# Altium integrated library Xilinx XC3000.IntLib: 584 symbols (part 5 of 27)
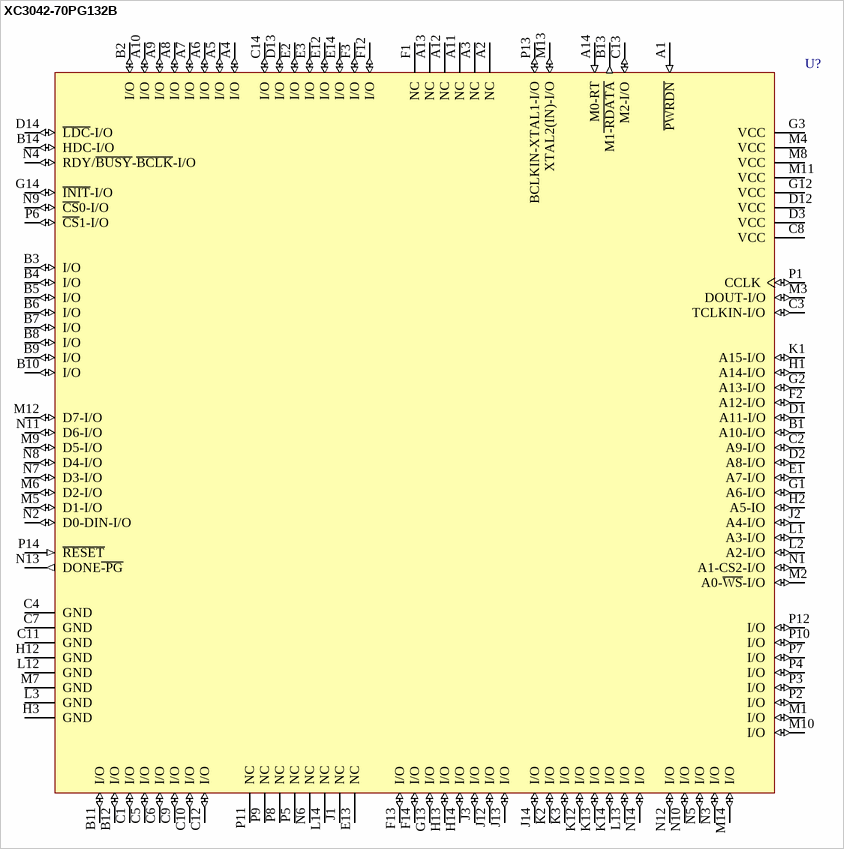
[diagram p321: symbol XC3042-70PG132B]

## XC3042-70PG132B
designator U?
Logic Cell Array with 144 CLBs, with 96 I/O Pins, 132-Pin PGA, Military Class B Grade; PackageDocument: ver1.1, Apr-2001; Published: 8-Jun-2000; LatestRevisionDate: 17-Jul-2002; LatestRevisionNote: Re-released for DXP Platform.; DatasheetDocument: 1994; PackageReference: PG132; Publisher: Altium Limited; Code_JEDEC: MO-067-AF
footprint PG132 (132-Pin Ceramic PGA (PG132))
pins: A1 ~{PWRDN} (in), A2 NC, A3 NC, A4 I/O (io), A5 I/O (io), A6 I/O (io), A7 I/O (io), A8 I/O (io), A9 I/O (io), A10 I/O (io), A11 NC, A12 NC, A13 NC, A14 M0-RT (in), B1 A10-I/O (io), B2 I/O (io), B3 I/O (io), B4 I/O (io), B5 I/O (io), B6 I/O (io), B7 I/O (io), B8 I/O (io), B9 I/O (io), B10 I/O (io), B11 I/O (io), B12 I/O (io), B13 M1~{-RDATA} (out), B14 HDC-I/O (io), C1 I/O (io), C2 A9-I/O (io), C3 TCLKIN-I/O (io), C4 GND (power), C5 I/O (io), C6 I/O (io), C7 GND (power), C8 VCC (power), C9 I/O (io), C10 I/O (io), C11 GND (power), C12 I/O (io), C13 M2-I/O (io), C14 I/O (io), D1 A11-I/O (io), D2 A8-I/O (io), D3 VCC (power), D12 VCC (power), D13 I/O (io), D14 ~{LDC}-I/O (io), E1 A7-I/O (io), E2 I/O (io), E3 I/O (io), E12 I/O (io), E13 NC, E14 I/O (io), F1 NC, F2 A12-I/O (io), F3 I/O (io), F12 I/O (io), F13 I/O (io), F14 I/O (io), G1 A6-I/O (io), G2 A13-I/O (io), G3 VCC (power), G12 VCC (power), G13 I/O (io), G14 ~{INIT}-I/O (io), H1 A14-I/O (io), H2 A5-IO (io), H3 GND (power), H12 GND (power), H13 I/O (io), H14 I/O (io), J1 NC, J2 A4-I/O (io), J3 I/O (io), J12 I/O (io), J13 I/O (io), J14 I/O (io), K1 A15-I/O (io), K2 I/O (io), K3 I/O (io), K12 I/O (io), K13 I/O (io), K14 I/O (io), L1 A3-I/O (io), L2 A2-I/O (io), L3 GND (power), L12 GND (power), L13 I/O (io), L14 NC, M1 I/O (io), M2 A0-~{WS}-I/O (io), M3 DOUT-I/O (io), M4 VCC (power), M5 D1-I/O (io), M6 D2-I/O (io), M7 GND (power), M8 VCC (power), M9 D5-I/O (io), M10 I/O (io), M11 VCC (power), M12 D7-I/O (io), M13 XTAL2(IN)-I/O (io), M14 I/O (io), N1 A1-CS2-I/O (io), N2 D0-DIN-I/O (io), N3 I/O (io), N4 RDY/~{BUSY}-~{BCLK}-I/O (io), N5 I/O (io), N6 NC, N7 D3-I/O (io), N8 D4-I/O (io), N9 ~{CS}0-I/O (io), N10 I/O (io), N11 D6-I/O (io), N12 I/O (io), N13 DONE~{-PG} (out), N14 I/O (io), P1 CCLK (io), P2 I/O (io), P3 I/O (io), P4 I/O (io), P5 NC, P6 ~{CS}1-I/O (io), P7 I/O (io), P8 NC, P9 NC, P10 I/O (io), P11 NC, P12 I/O (io), P13 BCLKIN-XTAL1-I/O (io), P14 ~{RESET} (in)

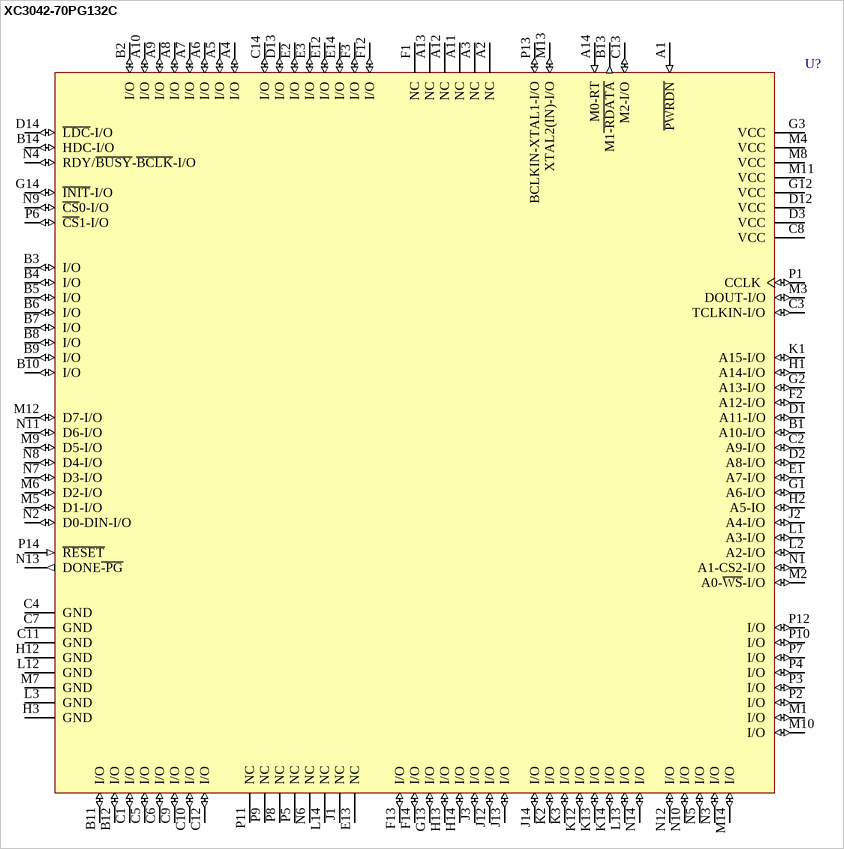
[diagram p30: symbol XC3042-70PG132C]

## XC3042-70PG132C
designator U?
Logic Cell Array with 144 CLBs, with 96 I/O Pins, 132-Pin PGA, Commercial Grade; PackageDocument: ver1.1, Apr-2001; Published: 8-Jun-2000; LatestRevisionDate: 17-Jul-2002; LatestRevisionNote: Re-released for DXP Platform.; DatasheetDocument: 1994; PackageReference: PG132; Publisher: Altium Limited; Code_JEDEC: MO-067-AF
footprint PG132 (132-Pin Ceramic PGA (PG132))
pins: A1 ~{PWRDN} (in), A2 NC, A3 NC, A4 I/O (io), A5 I/O (io), A6 I/O (io), A7 I/O (io), A8 I/O (io), A9 I/O (io), A10 I/O (io), A11 NC, A12 NC, A13 NC, A14 M0-RT (in), B1 A10-I/O (io), B2 I/O (io), B3 I/O (io), B4 I/O (io), B5 I/O (io), B6 I/O (io), B7 I/O (io), B8 I/O (io), B9 I/O (io), B10 I/O (io), B11 I/O (io), B12 I/O (io), B13 M1~{-RDATA} (out), B14 HDC-I/O (io), C1 I/O (io), C2 A9-I/O (io), C3 TCLKIN-I/O (io), C4 GND (power), C5 I/O (io), C6 I/O (io), C7 GND (power), C8 VCC (power), C9 I/O (io), C10 I/O (io), C11 GND (power), C12 I/O (io), C13 M2-I/O (io), C14 I/O (io), D1 A11-I/O (io), D2 A8-I/O (io), D3 VCC (power), D12 VCC (power), D13 I/O (io), D14 ~{LDC}-I/O (io), E1 A7-I/O (io), E2 I/O (io), E3 I/O (io), E12 I/O (io), E13 NC, E14 I/O (io), F1 NC, F2 A12-I/O (io), F3 I/O (io), F12 I/O (io), F13 I/O (io), F14 I/O (io), G1 A6-I/O (io), G2 A13-I/O (io), G3 VCC (power), G12 VCC (power), G13 I/O (io), G14 ~{INIT}-I/O (io), H1 A14-I/O (io), H2 A5-IO (io), H3 GND (power), H12 GND (power), H13 I/O (io), H14 I/O (io), J1 NC, J2 A4-I/O (io), J3 I/O (io), J12 I/O (io), J13 I/O (io), J14 I/O (io), K1 A15-I/O (io), K2 I/O (io), K3 I/O (io), K12 I/O (io), K13 I/O (io), K14 I/O (io), L1 A3-I/O (io), L2 A2-I/O (io), L3 GND (power), L12 GND (power), L13 I/O (io), L14 NC, M1 I/O (io), M2 A0-~{WS}-I/O (io), M3 DOUT-I/O (io), M4 VCC (power), M5 D1-I/O (io), M6 D2-I/O (io), M7 GND (power), M8 VCC (power), M9 D5-I/O (io), M10 I/O (io), M11 VCC (power), M12 D7-I/O (io), M13 XTAL2(IN)-I/O (io), M14 I/O (io), N1 A1-CS2-I/O (io), N2 D0-DIN-I/O (io), N3 I/O (io), N4 RDY/~{BUSY}-~{BCLK}-I/O (io), N5 I/O (io), N6 NC, N7 D3-I/O (io), N8 D4-I/O (io), N9 ~{CS}0-I/O (io), N10 I/O (io), N11 D6-I/O (io), N12 I/O (io), N13 DONE~{-PG} (out), N14 I/O (io), P1 CCLK (io), P2 I/O (io), P3 I/O (io), P4 I/O (io), P5 NC, P6 ~{CS}1-I/O (io), P7 I/O (io), P8 NC, P9 NC, P10 I/O (io), P11 NC, P12 I/O (io), P13 BCLKIN-XTAL1-I/O (io), P14 ~{RESET} (in)

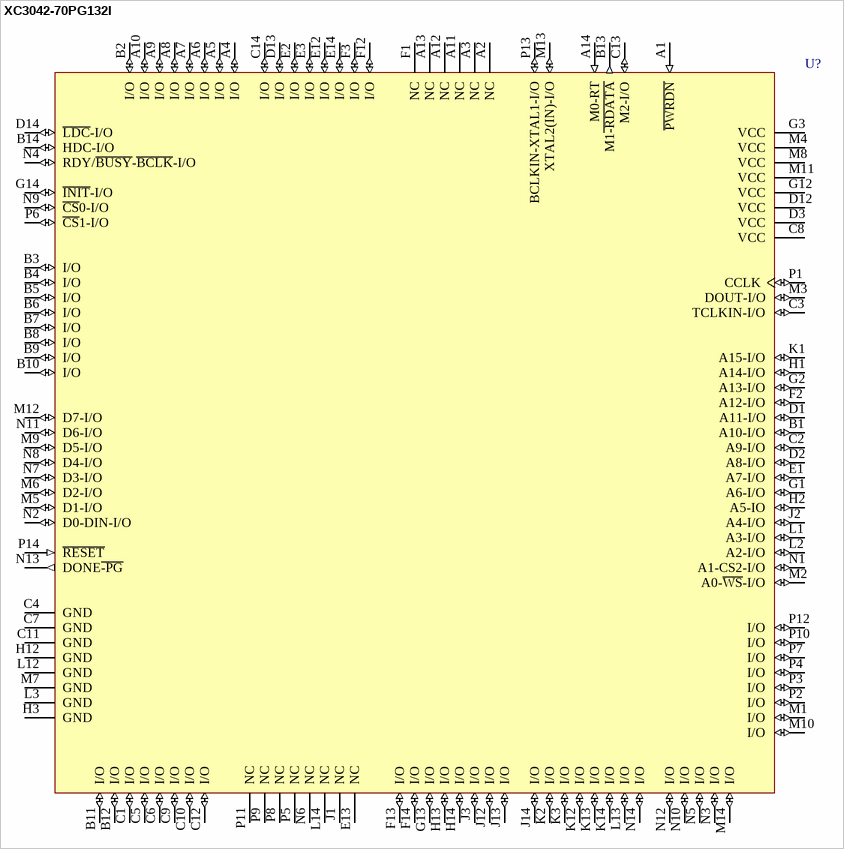
[diagram p31: symbol XC3042-70PG132I]

## XC3042-70PG132I
designator U?
Logic Cell Array with 144 CLBs, with 96 I/O Pins, 132-Pin PGA, Industrial Grade; PackageDocument: ver1.1, Apr-2001; Published: 8-Jun-2000; LatestRevisionDate: 17-Jul-2002; LatestRevisionNote: Re-released for DXP Platform.; DatasheetDocument: 1994; PackageReference: PG132; Publisher: Altium Limited; Code_JEDEC: MO-067-AF
footprint PG132 (132-Pin Ceramic PGA (PG132))
pins: A1 ~{PWRDN} (in), A2 NC, A3 NC, A4 I/O (io), A5 I/O (io), A6 I/O (io), A7 I/O (io), A8 I/O (io), A9 I/O (io), A10 I/O (io), A11 NC, A12 NC, A13 NC, A14 M0-RT (in), B1 A10-I/O (io), B2 I/O (io), B3 I/O (io), B4 I/O (io), B5 I/O (io), B6 I/O (io), B7 I/O (io), B8 I/O (io), B9 I/O (io), B10 I/O (io), B11 I/O (io), B12 I/O (io), B13 M1~{-RDATA} (out), B14 HDC-I/O (io), C1 I/O (io), C2 A9-I/O (io), C3 TCLKIN-I/O (io), C4 GND (power), C5 I/O (io), C6 I/O (io), C7 GND (power), C8 VCC (power), C9 I/O (io), C10 I/O (io), C11 GND (power), C12 I/O (io), C13 M2-I/O (io), C14 I/O (io), D1 A11-I/O (io), D2 A8-I/O (io), D3 VCC (power), D12 VCC (power), D13 I/O (io), D14 ~{LDC}-I/O (io), E1 A7-I/O (io), E2 I/O (io), E3 I/O (io), E12 I/O (io), E13 NC, E14 I/O (io), F1 NC, F2 A12-I/O (io), F3 I/O (io), F12 I/O (io), F13 I/O (io), F14 I/O (io), G1 A6-I/O (io), G2 A13-I/O (io), G3 VCC (power), G12 VCC (power), G13 I/O (io), G14 ~{INIT}-I/O (io), H1 A14-I/O (io), H2 A5-IO (io), H3 GND (power), H12 GND (power), H13 I/O (io), H14 I/O (io), J1 NC, J2 A4-I/O (io), J3 I/O (io), J12 I/O (io), J13 I/O (io), J14 I/O (io), K1 A15-I/O (io), K2 I/O (io), K3 I/O (io), K12 I/O (io), K13 I/O (io), K14 I/O (io), L1 A3-I/O (io), L2 A2-I/O (io), L3 GND (power), L12 GND (power), L13 I/O (io), L14 NC, M1 I/O (io), M2 A0-~{WS}-I/O (io), M3 DOUT-I/O (io), M4 VCC (power), M5 D1-I/O (io), M6 D2-I/O (io), M7 GND (power), M8 VCC (power), M9 D5-I/O (io), M10 I/O (io), M11 VCC (power), M12 D7-I/O (io), M13 XTAL2(IN)-I/O (io), M14 I/O (io), N1 A1-CS2-I/O (io), N2 D0-DIN-I/O (io), N3 I/O (io), N4 RDY/~{BUSY}-~{BCLK}-I/O (io), N5 I/O (io), N6 NC, N7 D3-I/O (io), N8 D4-I/O (io), N9 ~{CS}0-I/O (io), N10 I/O (io), N11 D6-I/O (io), N12 I/O (io), N13 DONE~{-PG} (out), N14 I/O (io), P1 CCLK (io), P2 I/O (io), P3 I/O (io), P4 I/O (io), P5 NC, P6 ~{CS}1-I/O (io), P7 I/O (io), P8 NC, P9 NC, P10 I/O (io), P11 NC, P12 I/O (io), P13 BCLKIN-XTAL1-I/O (io), P14 ~{RESET} (in)

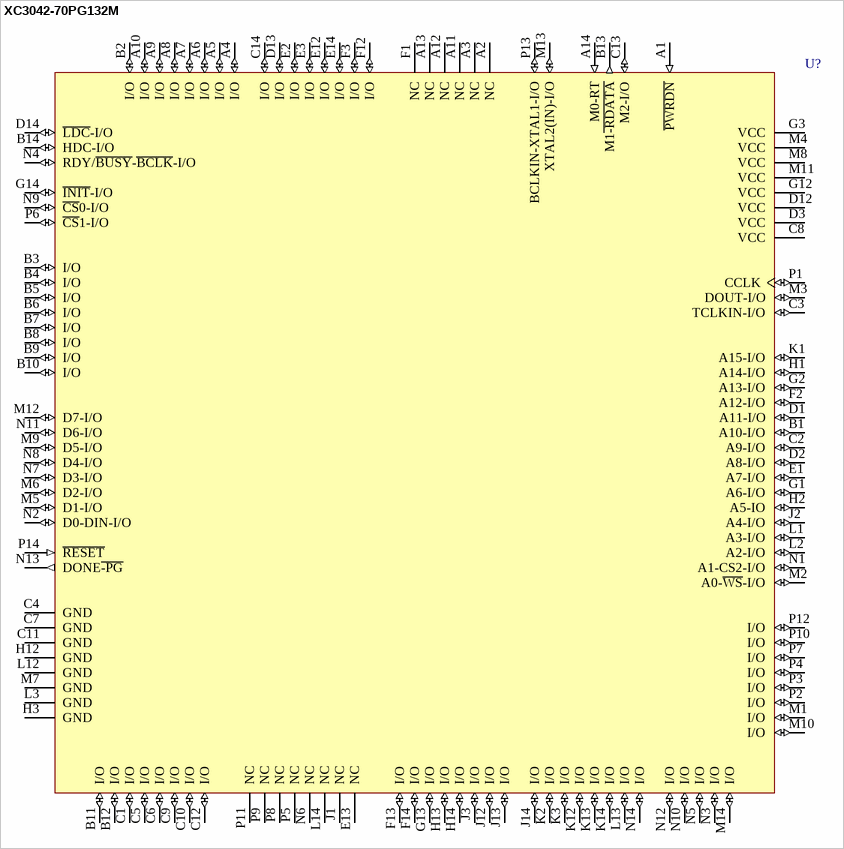
[diagram p32: symbol XC3042-70PG132M]

## XC3042-70PG132M
designator U?
Logic Cell Array with 144 CLBs, with 96 I/O Pins, 132-Pin PGA, Military Grade; PackageDocument: ver1.1, Apr-2001; Published: 8-Jun-2000; LatestRevisionDate: 17-Jul-2002; LatestRevisionNote: Re-released for DXP Platform.; DatasheetDocument: 1994; PackageReference: PG132; Publisher: Altium Limited; Code_JEDEC: MO-067-AF
footprint PG132 (132-Pin Ceramic PGA (PG132))
pins: A1 ~{PWRDN} (in), A2 NC, A3 NC, A4 I/O (io), A5 I/O (io), A6 I/O (io), A7 I/O (io), A8 I/O (io), A9 I/O (io), A10 I/O (io), A11 NC, A12 NC, A13 NC, A14 M0-RT (in), B1 A10-I/O (io), B2 I/O (io), B3 I/O (io), B4 I/O (io), B5 I/O (io), B6 I/O (io), B7 I/O (io), B8 I/O (io), B9 I/O (io), B10 I/O (io), B11 I/O (io), B12 I/O (io), B13 M1~{-RDATA} (out), B14 HDC-I/O (io), C1 I/O (io), C2 A9-I/O (io), C3 TCLKIN-I/O (io), C4 GND (power), C5 I/O (io), C6 I/O (io), C7 GND (power), C8 VCC (power), C9 I/O (io), C10 I/O (io), C11 GND (power), C12 I/O (io), C13 M2-I/O (io), C14 I/O (io), D1 A11-I/O (io), D2 A8-I/O (io), D3 VCC (power), D12 VCC (power), D13 I/O (io), D14 ~{LDC}-I/O (io), E1 A7-I/O (io), E2 I/O (io), E3 I/O (io), E12 I/O (io), E13 NC, E14 I/O (io), F1 NC, F2 A12-I/O (io), F3 I/O (io), F12 I/O (io), F13 I/O (io), F14 I/O (io), G1 A6-I/O (io), G2 A13-I/O (io), G3 VCC (power), G12 VCC (power), G13 I/O (io), G14 ~{INIT}-I/O (io), H1 A14-I/O (io), H2 A5-IO (io), H3 GND (power), H12 GND (power), H13 I/O (io), H14 I/O (io), J1 NC, J2 A4-I/O (io), J3 I/O (io), J12 I/O (io), J13 I/O (io), J14 I/O (io), K1 A15-I/O (io), K2 I/O (io), K3 I/O (io), K12 I/O (io), K13 I/O (io), K14 I/O (io), L1 A3-I/O (io), L2 A2-I/O (io), L3 GND (power), L12 GND (power), L13 I/O (io), L14 NC, M1 I/O (io), M2 A0-~{WS}-I/O (io), M3 DOUT-I/O (io), M4 VCC (power), M5 D1-I/O (io), M6 D2-I/O (io), M7 GND (power), M8 VCC (power), M9 D5-I/O (io), M10 I/O (io), M11 VCC (power), M12 D7-I/O (io), M13 XTAL2(IN)-I/O (io), M14 I/O (io), N1 A1-CS2-I/O (io), N2 D0-DIN-I/O (io), N3 I/O (io), N4 RDY/~{BUSY}-~{BCLK}-I/O (io), N5 I/O (io), N6 NC, N7 D3-I/O (io), N8 D4-I/O (io), N9 ~{CS}0-I/O (io), N10 I/O (io), N11 D6-I/O (io), N12 I/O (io), N13 DONE~{-PG} (out), N14 I/O (io), P1 CCLK (io), P2 I/O (io), P3 I/O (io), P4 I/O (io), P5 NC, P6 ~{CS}1-I/O (io), P7 I/O (io), P8 NC, P9 NC, P10 I/O (io), P11 NC, P12 I/O (io), P13 BCLKIN-XTAL1-I/O (io), P14 ~{RESET} (in)

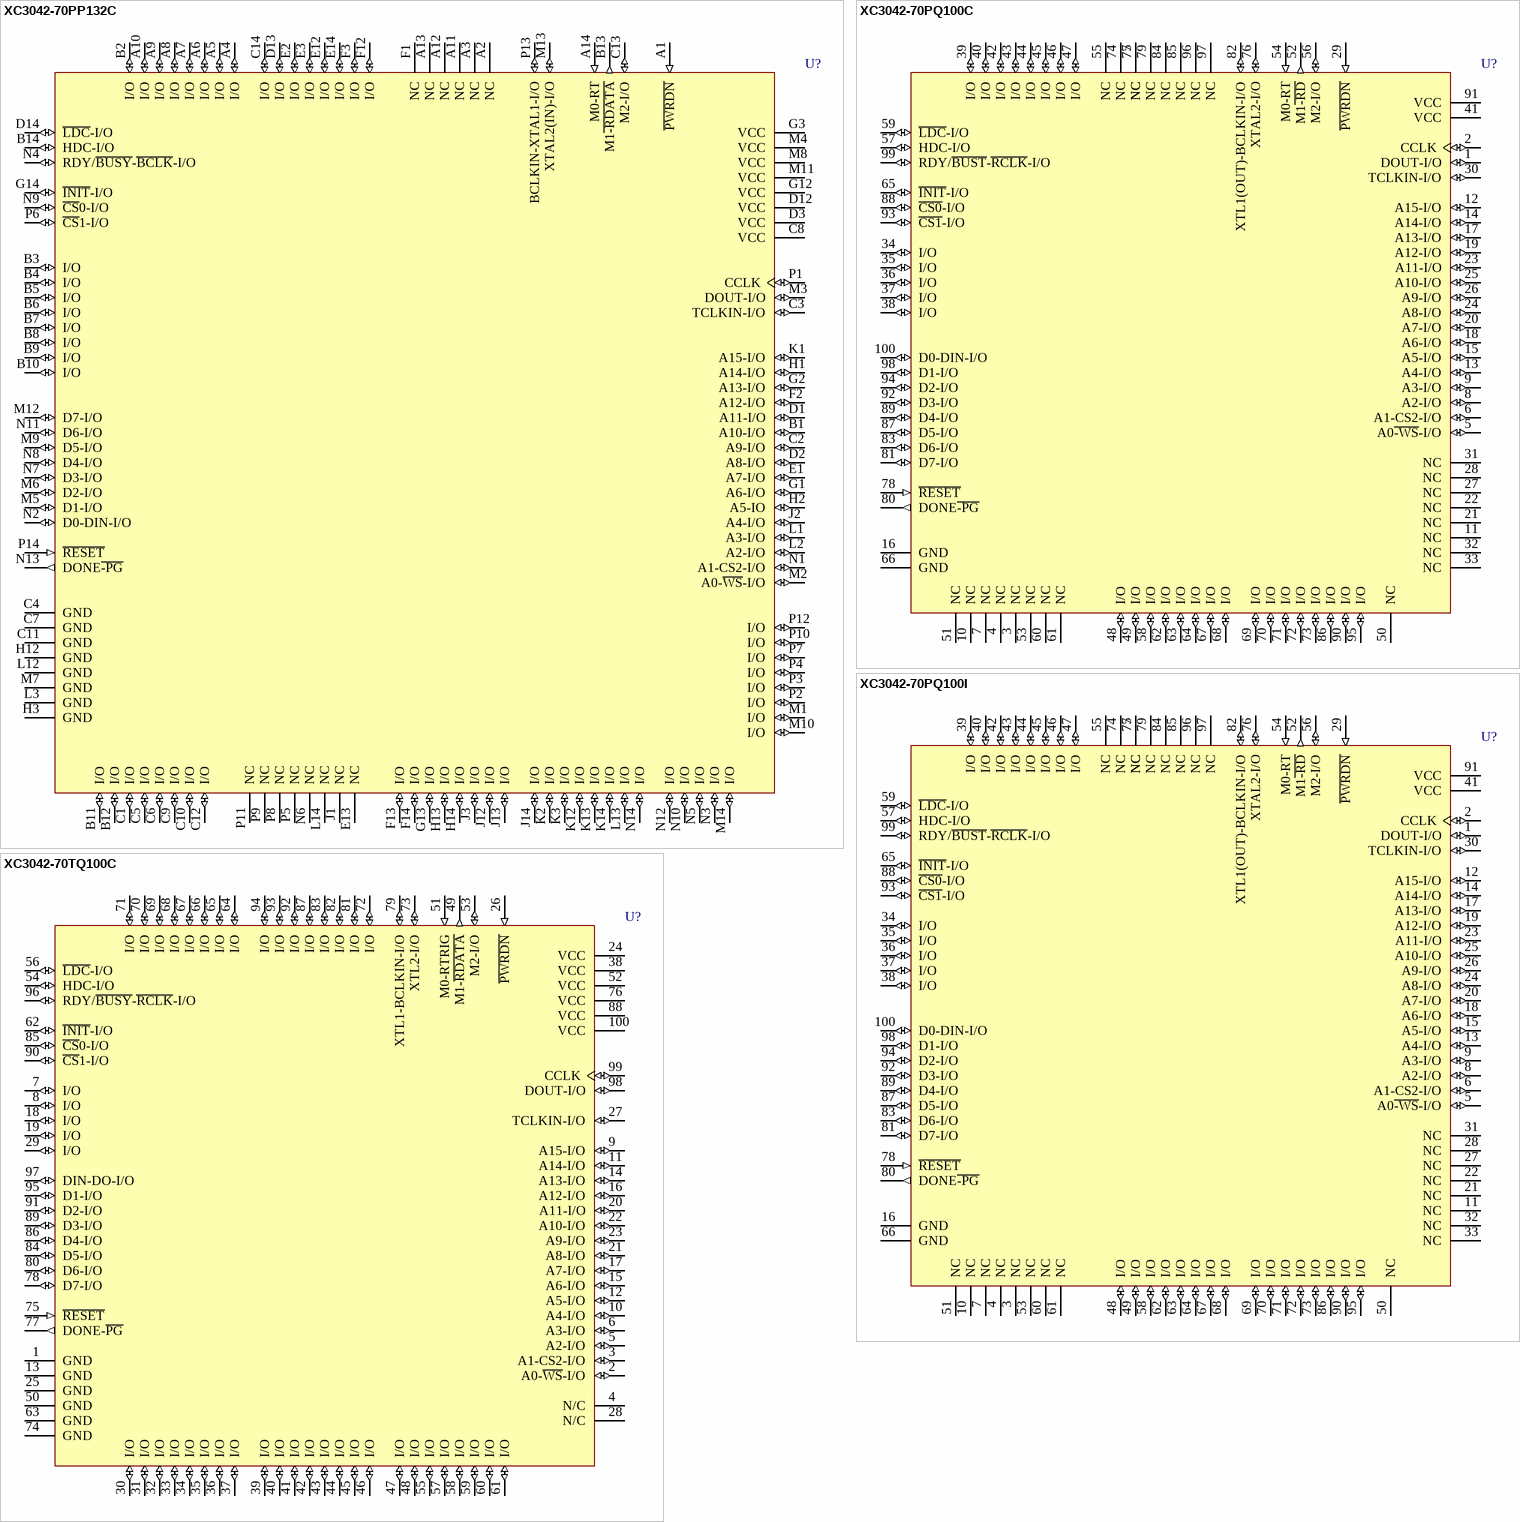
[diagram p33: symbols XC3042-70PP132C to XC3042-70TQ100C]

## XC3042-70PP132C
designator U?
Logic Cell Array with 144 CLBs, with 96 I/O Pins, 132-Pin PGA, Commercial Grade; PackageDocument: ver1.1, Apr-2001; Published: 8-Jun-2000; LatestRevisionDate: 17-Jul-2002; LatestRevisionNote: Re-released for DXP Platform.; DatasheetDocument: 1994; PackageReference: PP132; Publisher: Altium Limited; Code_JEDEC: MO-083-AF
footprint PP132 (132-Pin Plastic PGA (PP132))
pins: A1 ~{PWRDN} (in), A2 NC, A3 NC, A4 I/O (io), A5 I/O (io), A6 I/O (io), A7 I/O (io), A8 I/O (io), A9 I/O (io), A10 I/O (io), A11 NC, A12 NC, A13 NC, A14 M0-RT (in), B1 A10-I/O (io), B2 I/O (io), B3 I/O (io), B4 I/O (io), B5 I/O (io), B6 I/O (io), B7 I/O (io), B8 I/O (io), B9 I/O (io), B10 I/O (io), B11 I/O (io), B12 I/O (io), B13 M1~{-RDATA} (out), B14 HDC-I/O (io), C1 I/O (io), C2 A9-I/O (io), C3 TCLKIN-I/O (io), C4 GND (power), C5 I/O (io), C6 I/O (io), C7 GND (power), C8 VCC (power), C9 I/O (io), C10 I/O (io), C11 GND (power), C12 I/O (io), C13 M2-I/O (io), C14 I/O (io), D1 A11-I/O (io), D2 A8-I/O (io), D3 VCC (power), D12 VCC (power), D13 I/O (io), D14 ~{LDC}-I/O (io), E1 A7-I/O (io), E2 I/O (io), E3 I/O (io), E12 I/O (io), E13 NC, E14 I/O (io), F1 NC, F2 A12-I/O (io), F3 I/O (io), F12 I/O (io), F13 I/O (io), F14 I/O (io), G1 A6-I/O (io), G2 A13-I/O (io), G3 VCC (power), G12 VCC (power), G13 I/O (io), G14 ~{INIT}-I/O (io), H1 A14-I/O (io), H2 A5-IO (io), H3 GND (power), H12 GND (power), H13 I/O (io), H14 I/O (io), J1 NC, J2 A4-I/O (io), J3 I/O (io), J12 I/O (io), J13 I/O (io), J14 I/O (io), K1 A15-I/O (io), K2 I/O (io), K3 I/O (io), K12 I/O (io), K13 I/O (io), K14 I/O (io), L1 A3-I/O (io), L2 A2-I/O (io), L3 GND (power), L12 GND (power), L13 I/O (io), L14 NC, M1 I/O (io), M2 A0-~{WS}-I/O (io), M3 DOUT-I/O (io), M4 VCC (power), M5 D1-I/O (io), M6 D2-I/O (io), M7 GND (power), M8 VCC (power), M9 D5-I/O (io), M10 I/O (io), M11 VCC (power), M12 D7-I/O (io), M13 XTAL2(IN)-I/O (io), M14 I/O (io), N1 A1-CS2-I/O (io), N2 D0-DIN-I/O (io), N3 I/O (io), N4 RDY/~{BUSY}-~{BCLK}-I/O (io), N5 I/O (io), N6 NC, N7 D3-I/O (io), N8 D4-I/O (io), N9 ~{CS}0-I/O (io), N10 I/O (io), N11 D6-I/O (io), N12 I/O (io), N13 DONE~{-PG} (out), N14 I/O (io), P1 CCLK (io), P2 I/O (io), P3 I/O (io), P4 I/O (io), P5 NC, P6 ~{CS}1-I/O (io), P7 I/O (io), P8 NC, P9 NC, P10 I/O (io), P11 NC, P12 I/O (io), P13 BCLKIN-XTAL1-I/O (io), P14 ~{RESET} (in)

## XC3042-70PQ100C
designator U?
Logic Cell Array with 144 CLBs, with 64 I/O Pins, 100-Pin PQFP, Commercial Grade; PackageDocument: ver1.2, Oct-2002; Published: 8-Jun-2000; LatestRevisionDate: 17-Sep-2003; LatestRevisionNote: PCB Footprint dimensions updated; DatasheetDocument: 1994; PackageReference: PQ100; Publisher: Altium Limited; Code_IPC: QFP-14X20-100
footprint PQ100 (100-Pin Plastic Quad Flat Pack (PQ100))
pins: 1 DOUT-I/O (io), 2 CCLK (io), 3 NC, 4 NC, 5 A0~{-WS}-I/O (io), 6 A1-CS2-I/O (io), 7 NC, 8 A2-I/O (io), 9 A3-I/O (io), 10 NC, 11 NC, 12 A15-I/O (io), 13 A4-I/O (io), 14 A14-I/O (io), 15 A5-I/O (io), 16 GND (power), 17 A13-I/O (io), 18 A6-I/O (io), 19 A12-I/O (io), 20 A7-I/O (io), 21 NC, 22 NC, 23 A11-I/O (io), 24 A8-I/O (io), 25 A10-I/O (io), 26 A9-I/O (io), 27 NC, 28 NC, 29 ~{PWRDN} (in), 30 TCLKIN-I/O (io), 31 NC, 32 NC, 33 NC, 34 I/O (io), 35 I/O (io), 36 I/O (io), 37 I/O (io), 38 I/O (io), 39 I/O (io), 40 I/O (io), 41 VCC (power), 42 I/O (io), 43 I/O (io), 44 I/O (io), 45 I/O (io), 46 I/O (io), 47 I/O (io), 48 I/O (io), 49 I/O (io), 50 NC, 51 NC, 52 M1~{-RD} (out), 53 NC, 54 M0-RT (in), 55 NC, 56 M2-I/O (io), 57 HDC-I/O (io), 58 I/O (io), 59 ~{LDC}-I/O (io), 60 NC, 61 NC, 62 I/O (io), 63 I/O (io), 64 I/O (io), 65 ~{INIT}-I/O (io), 66 GND (power), 67 I/O (io), 68 I/O (io), 69 I/O (io), 70 I/O (io), 71 I/O (io), 72 I/O (io), 73 I/O (io), 74 NC, 75 NC, 76 XTAL2-I/O (io), 77 NC, 78 ~{RESET} (in), 79 NC, 80 DONE~{-PG} (out), 81 D7-I/O (io), 82 XTL1(OUT)-BCLKIN-I/O (io), 83 D6-I/O (io), 84 NC, 85 NC, 86 I/O (io), 87 D5-I/O (io), 88 ~{CS0}-I/O (io), 89 D4-I/O (io), 90 I/O (io), 91 VCC (power), 92 D3-I/O (io), 93 ~{CS1}-I/O (io), 94 D2-I/O (io), 95 I/O (io), 96 NC, 97 NC, 98 D1-I/O (io), 99 RDY/~{BUST}-~{RCLK}-I/O (io), 100 D0-DIN-I/O (io)

## XC3042-70PQ100I
designator U?
Logic Cell Array with 144 CLBs, with 64 I/O Pins, 100-Pin PQFP, Industrial Grade; PackageDocument: ver1.2, Oct-2002; Published: 8-Jun-2000; LatestRevisionDate: 17-Sep-2003; LatestRevisionNote: PCB Footprint dimensions updated; DatasheetDocument: 1994; PackageReference: PQ100; Publisher: Altium Limited; Code_IPC: QFP-14X20-100
footprint PQ100 (100-Pin Plastic Quad Flat Pack (PQ100))
pins: 1 DOUT-I/O (io), 2 CCLK (io), 3 NC, 4 NC, 5 A0~{-WS}-I/O (io), 6 A1-CS2-I/O (io), 7 NC, 8 A2-I/O (io), 9 A3-I/O (io), 10 NC, 11 NC, 12 A15-I/O (io), 13 A4-I/O (io), 14 A14-I/O (io), 15 A5-I/O (io), 16 GND (power), 17 A13-I/O (io), 18 A6-I/O (io), 19 A12-I/O (io), 20 A7-I/O (io), 21 NC, 22 NC, 23 A11-I/O (io), 24 A8-I/O (io), 25 A10-I/O (io), 26 A9-I/O (io), 27 NC, 28 NC, 29 ~{PWRDN} (in), 30 TCLKIN-I/O (io), 31 NC, 32 NC, 33 NC, 34 I/O (io), 35 I/O (io), 36 I/O (io), 37 I/O (io), 38 I/O (io), 39 I/O (io), 40 I/O (io), 41 VCC (power), 42 I/O (io), 43 I/O (io), 44 I/O (io), 45 I/O (io), 46 I/O (io), 47 I/O (io), 48 I/O (io), 49 I/O (io), 50 NC, 51 NC, 52 M1~{-RD} (out), 53 NC, 54 M0-RT (in), 55 NC, 56 M2-I/O (io), 57 HDC-I/O (io), 58 I/O (io), 59 ~{LDC}-I/O (io), 60 NC, 61 NC, 62 I/O (io), 63 I/O (io), 64 I/O (io), 65 ~{INIT}-I/O (io), 66 GND (power), 67 I/O (io), 68 I/O (io), 69 I/O (io), 70 I/O (io), 71 I/O (io), 72 I/O (io), 73 I/O (io), 74 NC, 75 NC, 76 XTAL2-I/O (io), 77 NC, 78 ~{RESET} (in), 79 NC, 80 DONE~{-PG} (out), 81 D7-I/O (io), 82 XTL1(OUT)-BCLKIN-I/O (io), 83 D6-I/O (io), 84 NC, 85 NC, 86 I/O (io), 87 D5-I/O (io), 88 ~{CS0}-I/O (io), 89 D4-I/O (io), 90 I/O (io), 91 VCC (power), 92 D3-I/O (io), 93 ~{CS1}-I/O (io), 94 D2-I/O (io), 95 I/O (io), 96 NC, 97 NC, 98 D1-I/O (io), 99 RDY/~{BUST}-~{RCLK}-I/O (io), 100 D0-DIN-I/O (io)

## XC3042-70TQ100C
designator U?
Logic Cell Array with 144 CLBs, with 80 I/O Pins, 100-Pin TQFP, Commercial Grade; PackageDocument: ver1.1, Oct-2002; Published: 8-Jun-2000; LatestRevisionDate: 17-Jul-2002; LatestRevisionNote: Re-released for DXP Platform.; DatasheetDocument: 1994; PackageReference: TQ100; Publisher: Altium Limited; Code_IPC: SQFP14X14-100
footprint TQ100 (100-Pin Thin Quad Flat Pack (TQ100))
pins: 1 GND (power), 2 A0-~{WS}-I/O (io), 3 A1-CS2-I/O (io), 4 N/C, 5 A2-I/O (io), 6 A3-I/O (io), 7 I/O (io), 8 I/O (io), 9 A15-I/O (io), 10 A4-I/O (io), 11 A14-I/O (io), 12 A5-I/O (io), 13 GND (power), 14 A13-I/O (io), 15 A6-I/O (io), 16 A12-I/O (io), 17 A7-I/O (io), 18 I/O (io), 19 I/O (io), 20 A11-I/O (io), 21 A8-I/O (io), 22 A10-I/O (io), 23 A9-I/O (io), 24 VCC (power), 25 GND (power), 26 ~{PWRDN} (in), 27 TCLKIN-I/O (io), 28 N/C, 29 I/O (io), 30 I/O (io), 31 I/O (io), 32 I/O (io), 33 I/O (io), 34 I/O (io), 35 I/O (io), 36 I/O (io), 37 I/O (io), 38 VCC (power), 39 I/O (io), 40 I/O (io), 41 I/O (io), 42 I/O (io), 43 I/O (io), 44 I/O (io), 45 I/O (io), 46 I/O (io), 47 I/O (io), 48 I/O (io), 49 M1-~{RDATA} (out), 50 GND (power), 51 M0-RTRIG (in), 52 VCC (power), 53 M2-I/O (io), 54 HDC-I/O (io), 55 I/O (io), 56 ~{LDC}-I/O (io), 57 I/O (io), 58 I/O (io), 59 I/O (io), 60 I/O (io), 61 I/O (io), 62 ~{INIT}-I/O (io), 63 GND (power), 64 I/O (io), 65 I/O (io), 66 I/O (io), 67 I/O (io), 68 I/O (io), 69 I/O (io), 70 I/O (io), 71 I/O (io), 72 I/O (io), 73 XTL2-I/O (io), 74 GND (power), 75 ~{RESET} (in), 76 VCC (power), 77 DONE-~{PG} (out), 78 D7-I/O (io), 79 XTL1-BCLKIN-I/O (io), 80 D6-I/O (io), 81 I/O (io), 82 I/O (io), 83 I/O (io), 84 D5-I/O (io), 85 ~{CS}0-I/O (io), 86 D4-I/O (io), 87 I/O (io), 88 VCC (power), 89 D3-I/O (io), 90 ~{CS}1-I/O (io), 91 D2-I/O (io), 92 I/O (io), 93 I/O (io), 94 I/O (io), 95 D1-I/O (io), 96 RDY/~{BUSY}-~{RCLK}-I/O (io), 97 DIN-DO-I/O (io), 98 DOUT-I/O (io), 99 CCLK (io), 100 VCC (power)

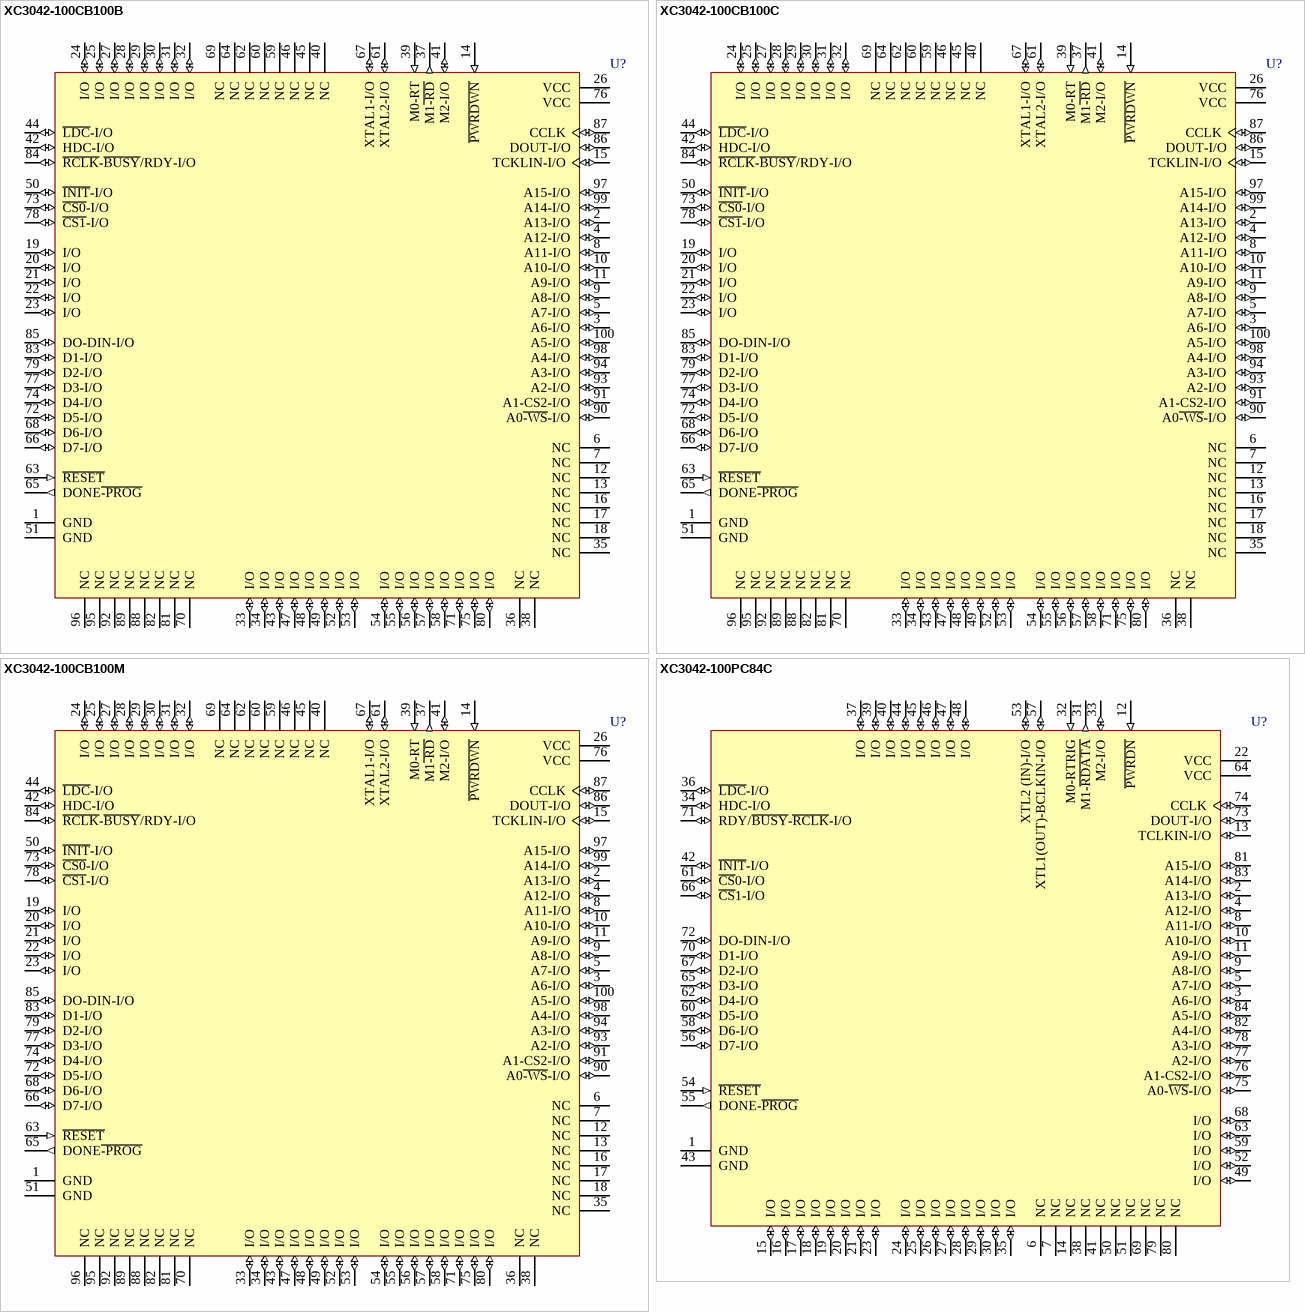
[diagram p34: symbols XC3042-100CB100B to XC3042-100PC84C]

## XC3042-100CB100B
designator U?
Logic Cell Array with 144 CLBs, with 64 I/O Pins, 100-Pin CQFP, Military Class B Grade; PackageDocument: ver1.0, Jun-2000; Published: 8-Jun-2000; LatestRevisionDate: 17-Jul-2002; LatestRevisionNote: Re-released for DXP Platform.; DatasheetDocument: 1994; PackageReference: CB100; Publisher: Altium Limited
footprint CB100 (100-Pin Ceramic Brazed CQFP (CB100))
pins: 1 GND (power), 2 A13-I/O (io), 3 A6-I/O (io), 4 A12-I/O (io), 5 A7-I/O (io), 6 NC, 7 NC, 8 A11-I/O (io), 9 A8-I/O (io), 10 A10-I/O (io), 11 A9-I/O (io), 12 NC, 13 NC, 14 ~{PWRDWN} (in), 15 TCKLIN-I/O (io), 16 NC, 17 NC, 18 NC, 19 I/O (io), 20 I/O (io), 21 I/O (io), 22 I/O (io), 23 I/O (io), 24 I/O (io), 25 I/O (io), 26 VCC (power), 27 I/O (io), 28 I/O (io), 29 I/O (io), 30 I/O (io), 31 I/O (io), 32 I/O (io), 33 I/O (io), 34 I/O (io), 35 NC, 36 NC, 37 M1~{-RD} (out), 38 NC, 39 M0-RT (in), 40 NC, 41 M2-I/O (io), 42 HDC-I/O (io), 43 I/O (io), 44 ~{LDC}-I/O (io), 45 NC, 46 NC, 47 I/O (io), 48 I/O (io), 49 I/O (io), 50 ~{INIT}-I/O (io), 51 GND (power), 52 I/O (io), 53 I/O (io), 54 I/O (io), 55 I/O (io), 56 I/O (io), 57 I/O (io), 58 I/O (io), 59 NC, 60 NC, 61 XTAL2-I/O (io), 62 NC, 63 ~{RESET} (in), 64 NC, 65 DONE~{-PROG} (out), 66 D7-I/O (io), 67 XTAL1-I/O (io), 68 D6-I/O (io), 69 NC, 70 NC, 71 I/O (io), 72 D5-I/O (io), 73 ~{CS0}-I/O (io), 74 D4-I/O (io), 75 I/O (io), 76 VCC (power), 77 D3-I/O (io), 78 ~{CS1}-I/O (io), 79 D2-I/O (io), 80 I/O (io), 81 NC, 82 NC, 83 D1-I/O (io), 84 ~{RCLK}-~{BUSY}/RDY-I/O (io), 85 DO-DIN-I/O (io), 86 DOUT-I/O (io), 87 CCLK (io), 88 NC, 89 NC, 90 A0~{-WS}-I/O (io), 91 A1-CS2-I/O (io), 92 NC, 93 A2-I/O (io), 94 A3-I/O (io), 95 NC, 96 NC, 97 A15-I/O (io), 98 A4-I/O (io), 99 A14-I/O (io), 100 A5-I/O (io)

## XC3042-100CB100C
designator U?
Logic Cell Array with 144 CLBs, with 64 I/O Pins, 100-Pin CQFP, Commercial Grade; PackageDocument: ver1.0, Jun-2000; Published: 8-Jun-2000; LatestRevisionDate: 17-Jul-2002; LatestRevisionNote: Re-released for DXP Platform.; DatasheetDocument: 1994; PackageReference: CB100; Publisher: Altium Limited
footprint CB100 (100-Pin Ceramic Brazed CQFP (CB100))
pins: 1 GND (power), 2 A13-I/O (io), 3 A6-I/O (io), 4 A12-I/O (io), 5 A7-I/O (io), 6 NC, 7 NC, 8 A11-I/O (io), 9 A8-I/O (io), 10 A10-I/O (io), 11 A9-I/O (io), 12 NC, 13 NC, 14 ~{PWRDWN} (in), 15 TCKLIN-I/O (io), 16 NC, 17 NC, 18 NC, 19 I/O (io), 20 I/O (io), 21 I/O (io), 22 I/O (io), 23 I/O (io), 24 I/O (io), 25 I/O (io), 26 VCC (power), 27 I/O (io), 28 I/O (io), 29 I/O (io), 30 I/O (io), 31 I/O (io), 32 I/O (io), 33 I/O (io), 34 I/O (io), 35 NC, 36 NC, 37 M1~{-RD} (out), 38 NC, 39 M0-RT (in), 40 NC, 41 M2-I/O (io), 42 HDC-I/O (io), 43 I/O (io), 44 ~{LDC}-I/O (io), 45 NC, 46 NC, 47 I/O (io), 48 I/O (io), 49 I/O (io), 50 ~{INIT}-I/O (io), 51 GND (power), 52 I/O (io), 53 I/O (io), 54 I/O (io), 55 I/O (io), 56 I/O (io), 57 I/O (io), 58 I/O (io), 59 NC, 60 NC, 61 XTAL2-I/O (io), 62 NC, 63 ~{RESET} (in), 64 NC, 65 DONE~{-PROG} (out), 66 D7-I/O (io), 67 XTAL1-I/O (io), 68 D6-I/O (io), 69 NC, 70 NC, 71 I/O (io), 72 D5-I/O (io), 73 ~{CS0}-I/O (io), 74 D4-I/O (io), 75 I/O (io), 76 VCC (power), 77 D3-I/O (io), 78 ~{CS1}-I/O (io), 79 D2-I/O (io), 80 I/O (io), 81 NC, 82 NC, 83 D1-I/O (io), 84 ~{RCLK}-~{BUSY}/RDY-I/O (io), 85 DO-DIN-I/O (io), 86 DOUT-I/O (io), 87 CCLK (io), 88 NC, 89 NC, 90 A0~{-WS}-I/O (io), 91 A1-CS2-I/O (io), 92 NC, 93 A2-I/O (io), 94 A3-I/O (io), 95 NC, 96 NC, 97 A15-I/O (io), 98 A4-I/O (io), 99 A14-I/O (io), 100 A5-I/O (io)

## XC3042-100CB100M
designator U?
Logic Cell Array with 144 CLBs, with 64 I/O Pins, 100-Pin CQFP, Military Grade; PackageDocument: ver1.0, Jun-2000; Published: 8-Jun-2000; LatestRevisionDate: 17-Jul-2002; LatestRevisionNote: Re-released for DXP Platform.; DatasheetDocument: 1994; PackageReference: CB100; Publisher: Altium Limited
footprint CB100 (100-Pin Ceramic Brazed CQFP (CB100))
pins: 1 GND (power), 2 A13-I/O (io), 3 A6-I/O (io), 4 A12-I/O (io), 5 A7-I/O (io), 6 NC, 7 NC, 8 A11-I/O (io), 9 A8-I/O (io), 10 A10-I/O (io), 11 A9-I/O (io), 12 NC, 13 NC, 14 ~{PWRDWN} (in), 15 TCKLIN-I/O (io), 16 NC, 17 NC, 18 NC, 19 I/O (io), 20 I/O (io), 21 I/O (io), 22 I/O (io), 23 I/O (io), 24 I/O (io), 25 I/O (io), 26 VCC (power), 27 I/O (io), 28 I/O (io), 29 I/O (io), 30 I/O (io), 31 I/O (io), 32 I/O (io), 33 I/O (io), 34 I/O (io), 35 NC, 36 NC, 37 M1~{-RD} (out), 38 NC, 39 M0-RT (in), 40 NC, 41 M2-I/O (io), 42 HDC-I/O (io), 43 I/O (io), 44 ~{LDC}-I/O (io), 45 NC, 46 NC, 47 I/O (io), 48 I/O (io), 49 I/O (io), 50 ~{INIT}-I/O (io), 51 GND (power), 52 I/O (io), 53 I/O (io), 54 I/O (io), 55 I/O (io), 56 I/O (io), 57 I/O (io), 58 I/O (io), 59 NC, 60 NC, 61 XTAL2-I/O (io), 62 NC, 63 ~{RESET} (in), 64 NC, 65 DONE~{-PROG} (out), 66 D7-I/O (io), 67 XTAL1-I/O (io), 68 D6-I/O (io), 69 NC, 70 NC, 71 I/O (io), 72 D5-I/O (io), 73 ~{CS0}-I/O (io), 74 D4-I/O (io), 75 I/O (io), 76 VCC (power), 77 D3-I/O (io), 78 ~{CS1}-I/O (io), 79 D2-I/O (io), 80 I/O (io), 81 NC, 82 NC, 83 D1-I/O (io), 84 ~{RCLK}-~{BUSY}/RDY-I/O (io), 85 DO-DIN-I/O (io), 86 DOUT-I/O (io), 87 CCLK (io), 88 NC, 89 NC, 90 A0~{-WS}-I/O (io), 91 A1-CS2-I/O (io), 92 NC, 93 A2-I/O (io), 94 A3-I/O (io), 95 NC, 96 NC, 97 A15-I/O (io), 98 A4-I/O (io), 99 A14-I/O (io), 100 A5-I/O (io)

## XC3042-100PC84C
designator U?
Logic Cell Array with 144 CLBs, with 64 I/O Pins, 84-Pin PLCC, Commercial Grade; PackageDocument: ver1.0, Jun-2000; Published: 8-Jun-2000; LatestRevisionDate: 17-Sep-2003; LatestRevisionNote: PCB Footprint dimensions updated; DatasheetDocument: 1994; PackageReference: PC84; Publisher: Altium Limited; Code_JEDEC: MS-047; Code_IPC: PLCC-84
footprint PC84 (84-Pin Plastic Leaded Chip Carrier (PC84))
pins: 1 GND (power), 2 A13-I/O (io), 3 A6-I/O (io), 4 A12-I/O (io), 5 A7-I/O (io), 6 NC, 7 NC, 8 A11-I/O (io), 9 A8-I/O (io), 10 A10-I/O (io), 11 A9-I/O (io), 12 ~{PWRDN} (in), 13 TCLKIN-I/O (io), 14 NC, 15 I/O (io), 16 I/O (io), 17 I/O (io), 18 I/O (io), 19 I/O (io), 20 I/O (io), 21 I/O (io), 22 VCC (power), 23 I/O (io), 24 I/O (io), 25 I/O (io), 26 I/O (io), 27 I/O (io), 28 I/O (io), 29 I/O (io), 30 I/O (io), 31 M1-~{RDATA} (out), 32 M0-RTRIG (in), 33 M2-I/O (io), 34 HDC-I/O (io), 35 I/O (io), 36 ~{LDC}-I/O (io), 37 I/O (io), 38 NC, 39 I/O (io), 40 I/O (io), 41 NC, 42 ~{INIT}-I/O (io), 43 GND (power), 44 I/O (io), 45 I/O (io), 46 I/O (io), 47 I/O (io), 48 I/O (io), 49 I/O (io), 50 NC, 51 NC, 52 I/O (io), 53 XTL2 (IN)-I/O (io), 54 ~{RESET} (in), 55 DONE-~{PROG} (out), 56 D7-I/O (io), 57 XTL1(OUT)-BCLKIN-I/O (io), 58 D6-I/O (io), 59 I/O (io), 60 D5-I/O (io), 61 ~{CS}0-I/O (io), 62 D4-I/O (io), 63 I/O (io), 64 VCC (power), 65 D3-I/O (io), 66 ~{CS}1-I/O (io), 67 D2-I/O (io), 68 I/O (io), 69 NC, 70 D1-I/O (io), 71 RDY/~{BUSY}-~{RCLK}-I/O (io), 72 DO-DIN-I/O (io), 73 DOUT-I/O (io), 74 CCLK (io), 75 A0-~{WS}-I/O (io), 76 A1-CS2-I/O (io), 77 A2-I/O (io), 78 A3-I/O (io), 79 NC, 80 NC, 81 A15-I/O (io), 82 A4-I/O (io), 83 A14-I/O (io), 84 A5-I/O (io)

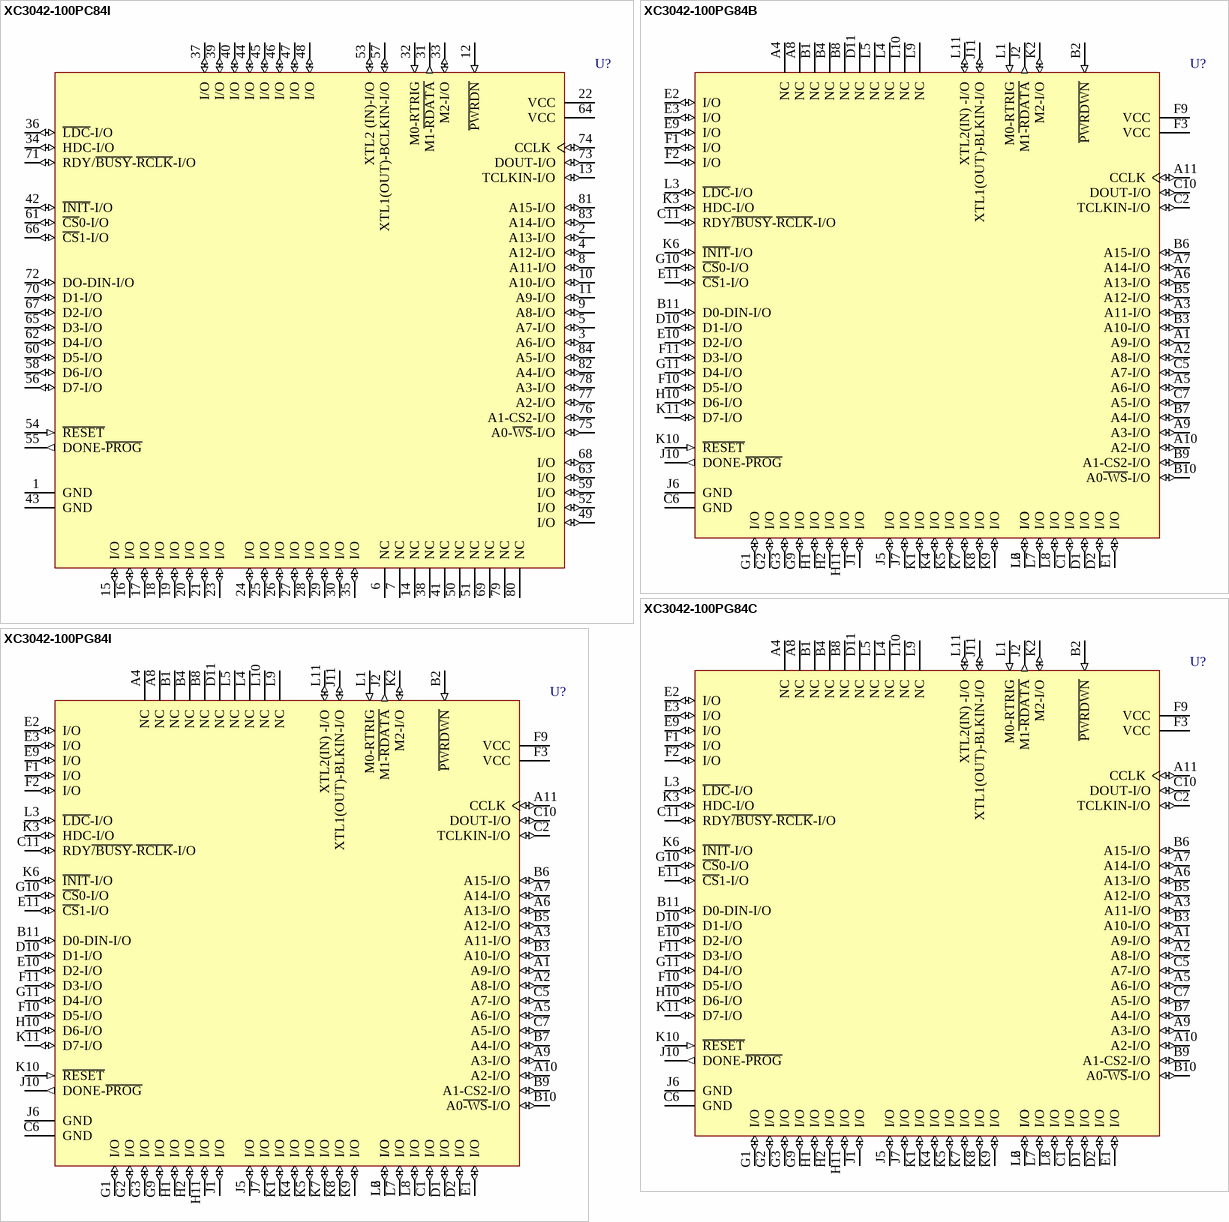
[diagram p35: symbols XC3042-100PC84I to XC3042-100PG84I]

## XC3042-100PC84I
designator U?
Logic Cell Array with 144 CLBs, with 64 I/O Pins, 84-Pin PLCC, Industrial Grade; PackageDocument: ver1.0, Jun-2000; Published: 8-Jun-2000; LatestRevisionDate: 17-Sep-2003; LatestRevisionNote: PCB Footprint dimensions updated; DatasheetDocument: 1994; PackageReference: PC84; Publisher: Altium Limited; Code_JEDEC: MS-047; Code_IPC: PLCC-84
footprint PC84 (84-Pin Plastic Leaded Chip Carrier (PC84))
pins: 1 GND (power), 2 A13-I/O (io), 3 A6-I/O (io), 4 A12-I/O (io), 5 A7-I/O (io), 6 NC, 7 NC, 8 A11-I/O (io), 9 A8-I/O (io), 10 A10-I/O (io), 11 A9-I/O (io), 12 ~{PWRDN} (in), 13 TCLKIN-I/O (io), 14 NC, 15 I/O (io), 16 I/O (io), 17 I/O (io), 18 I/O (io), 19 I/O (io), 20 I/O (io), 21 I/O (io), 22 VCC (power), 23 I/O (io), 24 I/O (io), 25 I/O (io), 26 I/O (io), 27 I/O (io), 28 I/O (io), 29 I/O (io), 30 I/O (io), 31 M1-~{RDATA} (out), 32 M0-RTRIG (in), 33 M2-I/O (io), 34 HDC-I/O (io), 35 I/O (io), 36 ~{LDC}-I/O (io), 37 I/O (io), 38 NC, 39 I/O (io), 40 I/O (io), 41 NC, 42 ~{INIT}-I/O (io), 43 GND (power), 44 I/O (io), 45 I/O (io), 46 I/O (io), 47 I/O (io), 48 I/O (io), 49 I/O (io), 50 NC, 51 NC, 52 I/O (io), 53 XTL2 (IN)-I/O (io), 54 ~{RESET} (in), 55 DONE-~{PROG} (out), 56 D7-I/O (io), 57 XTL1(OUT)-BCLKIN-I/O (io), 58 D6-I/O (io), 59 I/O (io), 60 D5-I/O (io), 61 ~{CS}0-I/O (io), 62 D4-I/O (io), 63 I/O (io), 64 VCC (power), 65 D3-I/O (io), 66 ~{CS}1-I/O (io), 67 D2-I/O (io), 68 I/O (io), 69 NC, 70 D1-I/O (io), 71 RDY/~{BUSY}-~{RCLK}-I/O (io), 72 DO-DIN-I/O (io), 73 DOUT-I/O (io), 74 CCLK (io), 75 A0-~{WS}-I/O (io), 76 A1-CS2-I/O (io), 77 A2-I/O (io), 78 A3-I/O (io), 79 NC, 80 NC, 81 A15-I/O (io), 82 A4-I/O (io), 83 A14-I/O (io), 84 A5-I/O (io)

## XC3042-100PG84B
designator U?
Logic Cell Array with 144 CLBs, with 64 I/O Pins, 84-Pin PGA, Military Class B Grade; PackageDocument: ver1.1, Apr-2001; Published: 8-Jun-2000; LatestRevisionDate: 17-Jul-2002; LatestRevisionNote: Re-released for DXP Platform.; DatasheetDocument: 1994; PackageReference: PG84; Publisher: Altium Limited; Code_JEDEC: MO-066-AC
footprint PG84 (84-Pin Ceramic Pin-Grid Array (PG84))
pins: A1 A9-I/O (io), A2 A8-I/O (io), A3 A11-I/O (io), A4 NC, A5 A6-I/O (io), A6 A13-I/O (io), A7 A14-I/O (io), A8 NC, A9 A3-I/O (io), A10 A2-I/O (io), A11 CCLK (io), B1 NC, B2 ~{PWRDWN} (in), B3 A10-I/O (io), B4 NC, B5 A12-I/O (io), B6 A15-I/O (io), B7 A4-I/O (io), B8 NC, B9 A1-CS2-I/O (io), B10 A0~{-WS}-I/O (io), B11 D0-DIN-I/O (io), C1 I/O (io), C2 TCLKIN-I/O (io), C5 A7-I/O (io), C6 GND (power), C7 A5-I/O (io), C10 DOUT-I/O (io), C11 RDY~{/BUSY}-~{RCLK}-I/O (io), D1 I/O (io), D2 I/O (io), D10 D1-I/O (io), D11 NC, E1 I/O (io), E2 I/O (io), E3 I/O (io), E9 I/O (io), E10 D2-I/O (io), E11 ~{CS}1-I/O (io), F1 I/O (io), F2 I/O (io), F3 VCC (power), F9 VCC (power), F10 D5-I/O (io), F11 D3-I/O (io), G1 I/O (io), G2 I/O (io), G3 I/O (io), G9 I/O (io), G10 ~{CS}0-I/O (io), G11 D4-I/O (io), H1 I/O (io), H2 I/O (io), H10 D6-I/O (io), H11 I/O (io), J1 I/O (io), J2 M1~{-RDATA} (out), J5 I/O (io), J6 GND (power), J7 I/O (io), J10 DONE-~{PROG} (out), J11 XTL1(OUT)-BLKIN-I/O (io), K1 I/O (io), K2 M2-I/O (io), K3 HDC-I/O (io), K4 I/O (io), K5 I/O (io), K6 ~{INIT}-I/O (io), K7 I/O (io), K8 I/O (io), K9 I/O (io), K10 ~{RESET} (in), K11 D7-I/O (io), L1 M0-RTRIG (in), L2 I/O (io), L3 ~{LDC}-I/O (io), L4 NC, L5 NC, L6 I/O (io), L7 I/O (io), L8 I/O (io), L9 NC, L10 NC, L11 XTL2(IN) -I/O (io)

## XC3042-100PG84C
designator U?
Logic Cell Array with 144 CLBs, with 64 I/O Pins, 84-Pin PGA, Commercial Grade; PackageDocument: ver1.1, Apr-2001; Published: 8-Jun-2000; LatestRevisionDate: 17-Jul-2002; LatestRevisionNote: Re-released for DXP Platform.; DatasheetDocument: 1994; PackageReference: PG84; Publisher: Altium Limited; Code_JEDEC: MO-066-AC
footprint PG84 (84-Pin Ceramic Pin-Grid Array (PG84))
pins: A1 A9-I/O (io), A2 A8-I/O (io), A3 A11-I/O (io), A4 NC, A5 A6-I/O (io), A6 A13-I/O (io), A7 A14-I/O (io), A8 NC, A9 A3-I/O (io), A10 A2-I/O (io), A11 CCLK (io), B1 NC, B2 ~{PWRDWN} (in), B3 A10-I/O (io), B4 NC, B5 A12-I/O (io), B6 A15-I/O (io), B7 A4-I/O (io), B8 NC, B9 A1-CS2-I/O (io), B10 A0~{-WS}-I/O (io), B11 D0-DIN-I/O (io), C1 I/O (io), C2 TCLKIN-I/O (io), C5 A7-I/O (io), C6 GND (power), C7 A5-I/O (io), C10 DOUT-I/O (io), C11 RDY~{/BUSY}-~{RCLK}-I/O (io), D1 I/O (io), D2 I/O (io), D10 D1-I/O (io), D11 NC, E1 I/O (io), E2 I/O (io), E3 I/O (io), E9 I/O (io), E10 D2-I/O (io), E11 ~{CS}1-I/O (io), F1 I/O (io), F2 I/O (io), F3 VCC (power), F9 VCC (power), F10 D5-I/O (io), F11 D3-I/O (io), G1 I/O (io), G2 I/O (io), G3 I/O (io), G9 I/O (io), G10 ~{CS}0-I/O (io), G11 D4-I/O (io), H1 I/O (io), H2 I/O (io), H10 D6-I/O (io), H11 I/O (io), J1 I/O (io), J2 M1~{-RDATA} (out), J5 I/O (io), J6 GND (power), J7 I/O (io), J10 DONE-~{PROG} (out), J11 XTL1(OUT)-BLKIN-I/O (io), K1 I/O (io), K2 M2-I/O (io), K3 HDC-I/O (io), K4 I/O (io), K5 I/O (io), K6 ~{INIT}-I/O (io), K7 I/O (io), K8 I/O (io), K9 I/O (io), K10 ~{RESET} (in), K11 D7-I/O (io), L1 M0-RTRIG (in), L2 I/O (io), L3 ~{LDC}-I/O (io), L4 NC, L5 NC, L6 I/O (io), L7 I/O (io), L8 I/O (io), L9 NC, L10 NC, L11 XTL2(IN) -I/O (io)

## XC3042-100PG84I
designator U?
Logic Cell Array with 144 CLBs, with 64 I/O Pins, 84-Pin PGA, Industrial Grade; PackageDocument: ver1.1, Apr-2001; Published: 8-Jun-2000; LatestRevisionDate: 17-Jul-2002; LatestRevisionNote: Re-released for DXP Platform.; DatasheetDocument: 1994; PackageReference: PG84; Publisher: Altium Limited; Code_JEDEC: MO-066-AC
footprint PG84 (84-Pin Ceramic Pin-Grid Array (PG84))
pins: A1 A9-I/O (io), A2 A8-I/O (io), A3 A11-I/O (io), A4 NC, A5 A6-I/O (io), A6 A13-I/O (io), A7 A14-I/O (io), A8 NC, A9 A3-I/O (io), A10 A2-I/O (io), A11 CCLK (io), B1 NC, B2 ~{PWRDWN} (in), B3 A10-I/O (io), B4 NC, B5 A12-I/O (io), B6 A15-I/O (io), B7 A4-I/O (io), B8 NC, B9 A1-CS2-I/O (io), B10 A0~{-WS}-I/O (io), B11 D0-DIN-I/O (io), C1 I/O (io), C2 TCLKIN-I/O (io), C5 A7-I/O (io), C6 GND (power), C7 A5-I/O (io), C10 DOUT-I/O (io), C11 RDY~{/BUSY}-~{RCLK}-I/O (io), D1 I/O (io), D2 I/O (io), D10 D1-I/O (io), D11 NC, E1 I/O (io), E2 I/O (io), E3 I/O (io), E9 I/O (io), E10 D2-I/O (io), E11 ~{CS}1-I/O (io), F1 I/O (io), F2 I/O (io), F3 VCC (power), F9 VCC (power), F10 D5-I/O (io), F11 D3-I/O (io), G1 I/O (io), G2 I/O (io), G3 I/O (io), G9 I/O (io), G10 ~{CS}0-I/O (io), G11 D4-I/O (io), H1 I/O (io), H2 I/O (io), H10 D6-I/O (io), H11 I/O (io), J1 I/O (io), J2 M1~{-RDATA} (out), J5 I/O (io), J6 GND (power), J7 I/O (io), J10 DONE-~{PROG} (out), J11 XTL1(OUT)-BLKIN-I/O (io), K1 I/O (io), K2 M2-I/O (io), K3 HDC-I/O (io), K4 I/O (io), K5 I/O (io), K6 ~{INIT}-I/O (io), K7 I/O (io), K8 I/O (io), K9 I/O (io), K10 ~{RESET} (in), K11 D7-I/O (io), L1 M0-RTRIG (in), L2 I/O (io), L3 ~{LDC}-I/O (io), L4 NC, L5 NC, L6 I/O (io), L7 I/O (io), L8 I/O (io), L9 NC, L10 NC, L11 XTL2(IN) -I/O (io)

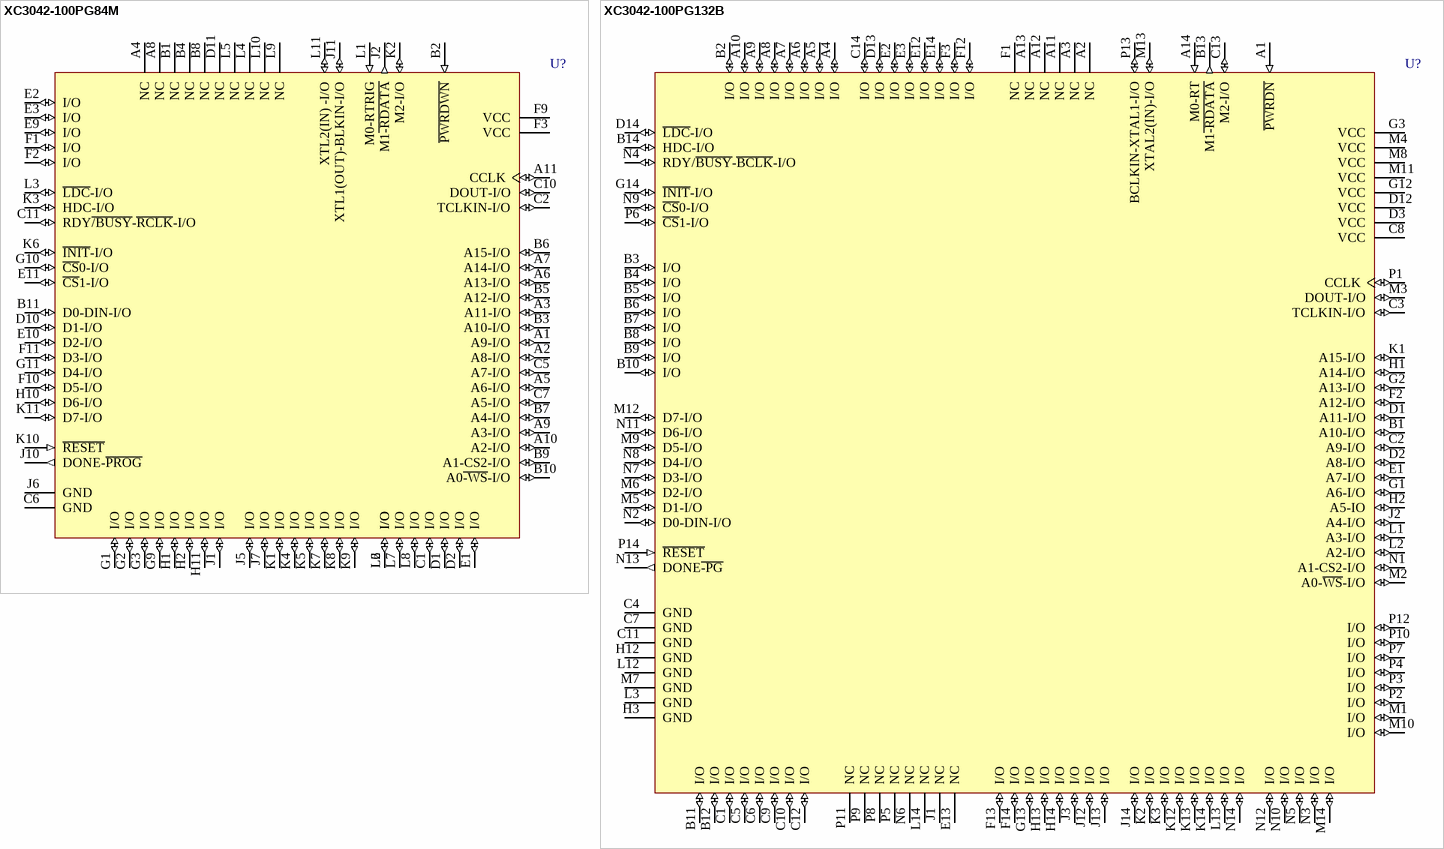
[diagram p36: symbols XC3042-100PG84M to XC3042-100PG132B]

## XC3042-100PG84M
designator U?
Logic Cell Array with 144 CLBs, with 64 I/O Pins, 84-Pin PGA, Military Grade; PackageDocument: ver1.1, Apr-2001; Published: 8-Jun-2000; LatestRevisionDate: 17-Jul-2002; LatestRevisionNote: Re-released for DXP Platform.; DatasheetDocument: 1994; PackageReference: PG84; Publisher: Altium Limited; Code_JEDEC: MO-066-AC
footprint PG84 (84-Pin Ceramic Pin-Grid Array (PG84))
pins: A1 A9-I/O (io), A2 A8-I/O (io), A3 A11-I/O (io), A4 NC, A5 A6-I/O (io), A6 A13-I/O (io), A7 A14-I/O (io), A8 NC, A9 A3-I/O (io), A10 A2-I/O (io), A11 CCLK (io), B1 NC, B2 ~{PWRDWN} (in), B3 A10-I/O (io), B4 NC, B5 A12-I/O (io), B6 A15-I/O (io), B7 A4-I/O (io), B8 NC, B9 A1-CS2-I/O (io), B10 A0~{-WS}-I/O (io), B11 D0-DIN-I/O (io), C1 I/O (io), C2 TCLKIN-I/O (io), C5 A7-I/O (io), C6 GND (power), C7 A5-I/O (io), C10 DOUT-I/O (io), C11 RDY~{/BUSY}-~{RCLK}-I/O (io), D1 I/O (io), D2 I/O (io), D10 D1-I/O (io), D11 NC, E1 I/O (io), E2 I/O (io), E3 I/O (io), E9 I/O (io), E10 D2-I/O (io), E11 ~{CS}1-I/O (io), F1 I/O (io), F2 I/O (io), F3 VCC (power), F9 VCC (power), F10 D5-I/O (io), F11 D3-I/O (io), G1 I/O (io), G2 I/O (io), G3 I/O (io), G9 I/O (io), G10 ~{CS}0-I/O (io), G11 D4-I/O (io), H1 I/O (io), H2 I/O (io), H10 D6-I/O (io), H11 I/O (io), J1 I/O (io), J2 M1~{-RDATA} (out), J5 I/O (io), J6 GND (power), J7 I/O (io), J10 DONE-~{PROG} (out), J11 XTL1(OUT)-BLKIN-I/O (io), K1 I/O (io), K2 M2-I/O (io), K3 HDC-I/O (io), K4 I/O (io), K5 I/O (io), K6 ~{INIT}-I/O (io), K7 I/O (io), K8 I/O (io), K9 I/O (io), K10 ~{RESET} (in), K11 D7-I/O (io), L1 M0-RTRIG (in), L2 I/O (io), L3 ~{LDC}-I/O (io), L4 NC, L5 NC, L6 I/O (io), L7 I/O (io), L8 I/O (io), L9 NC, L10 NC, L11 XTL2(IN) -I/O (io)

## XC3042-100PG132B
designator U?
Logic Cell Array with 144 CLBs, with 96 I/O Pins, 132-Pin PGA, Military Class B Grade; PackageDocument: ver1.1, Apr-2001; Published: 8-Jun-2000; LatestRevisionDate: 17-Jul-2002; LatestRevisionNote: Re-released for DXP Platform.; DatasheetDocument: 1994; PackageReference: PG132; Publisher: Altium Limited; Code_JEDEC: MO-067-AF
footprint PG132 (132-Pin Ceramic PGA (PG132))
pins: A1 ~{PWRDN} (in), A2 NC, A3 NC, A4 I/O (io), A5 I/O (io), A6 I/O (io), A7 I/O (io), A8 I/O (io), A9 I/O (io), A10 I/O (io), A11 NC, A12 NC, A13 NC, A14 M0-RT (in), B1 A10-I/O (io), B2 I/O (io), B3 I/O (io), B4 I/O (io), B5 I/O (io), B6 I/O (io), B7 I/O (io), B8 I/O (io), B9 I/O (io), B10 I/O (io), B11 I/O (io), B12 I/O (io), B13 M1~{-RDATA} (out), B14 HDC-I/O (io), C1 I/O (io), C2 A9-I/O (io), C3 TCLKIN-I/O (io), C4 GND (power), C5 I/O (io), C6 I/O (io), C7 GND (power), C8 VCC (power), C9 I/O (io), C10 I/O (io), C11 GND (power), C12 I/O (io), C13 M2-I/O (io), C14 I/O (io), D1 A11-I/O (io), D2 A8-I/O (io), D3 VCC (power), D12 VCC (power), D13 I/O (io), D14 ~{LDC}-I/O (io), E1 A7-I/O (io), E2 I/O (io), E3 I/O (io), E12 I/O (io), E13 NC, E14 I/O (io), F1 NC, F2 A12-I/O (io), F3 I/O (io), F12 I/O (io), F13 I/O (io), F14 I/O (io), G1 A6-I/O (io), G2 A13-I/O (io), G3 VCC (power), G12 VCC (power), G13 I/O (io), G14 ~{INIT}-I/O (io), H1 A14-I/O (io), H2 A5-IO (io), H3 GND (power), H12 GND (power), H13 I/O (io), H14 I/O (io), J1 NC, J2 A4-I/O (io), J3 I/O (io), J12 I/O (io), J13 I/O (io), J14 I/O (io), K1 A15-I/O (io), K2 I/O (io), K3 I/O (io), K12 I/O (io), K13 I/O (io), K14 I/O (io), L1 A3-I/O (io), L2 A2-I/O (io), L3 GND (power), L12 GND (power), L13 I/O (io), L14 NC, M1 I/O (io), M2 A0-~{WS}-I/O (io), M3 DOUT-I/O (io), M4 VCC (power), M5 D1-I/O (io), M6 D2-I/O (io), M7 GND (power), M8 VCC (power), M9 D5-I/O (io), M10 I/O (io), M11 VCC (power), M12 D7-I/O (io), M13 XTAL2(IN)-I/O (io), M14 I/O (io), N1 A1-CS2-I/O (io), N2 D0-DIN-I/O (io), N3 I/O (io), N4 RDY/~{BUSY}-~{BCLK}-I/O (io), N5 I/O (io), N6 NC, N7 D3-I/O (io), N8 D4-I/O (io), N9 ~{CS}0-I/O (io), N10 I/O (io), N11 D6-I/O (io), N12 I/O (io), N13 DONE~{-PG} (out), N14 I/O (io), P1 CCLK (io), P2 I/O (io), P3 I/O (io), P4 I/O (io), P5 NC, P6 ~{CS}1-I/O (io), P7 I/O (io), P8 NC, P9 NC, P10 I/O (io), P11 NC, P12 I/O (io), P13 BCLKIN-XTAL1-I/O (io), P14 ~{RESET} (in)

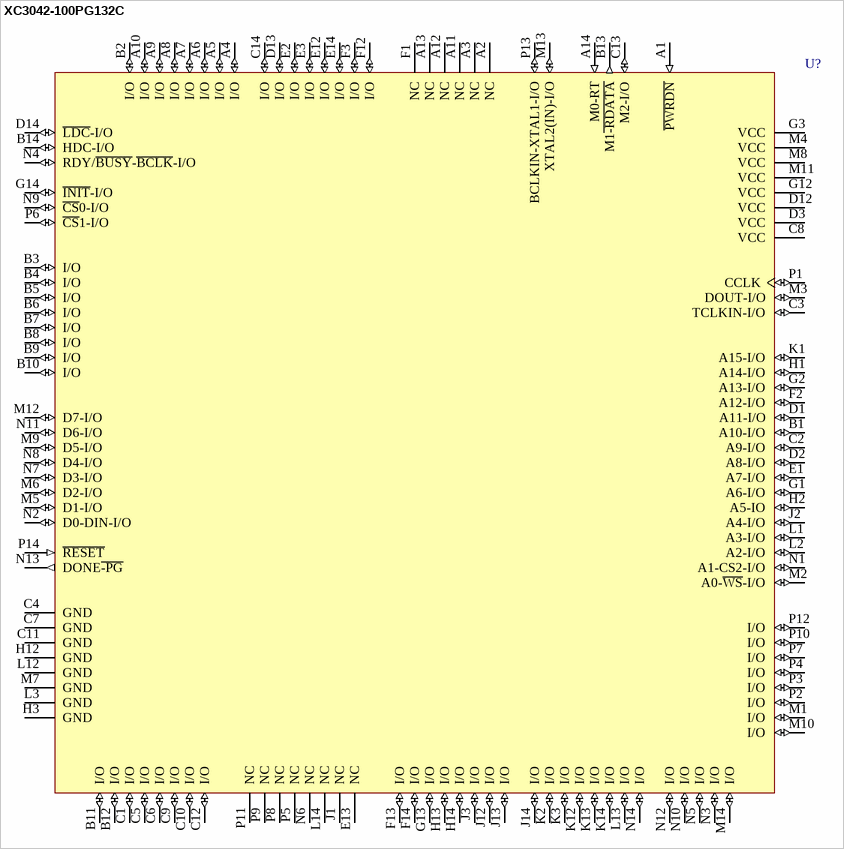
[diagram p37: symbol XC3042-100PG132C]

## XC3042-100PG132C
designator U?
Logic Cell Array with 144 CLBs, with 96 I/O Pins, 132-Pin PGA, Commercial Grade; PackageDocument: ver1.1, Apr-2001; Published: 8-Jun-2000; LatestRevisionDate: 17-Jul-2002; LatestRevisionNote: Re-released for DXP Platform.; DatasheetDocument: 1994; PackageReference: PG132; Publisher: Altium Limited; Code_JEDEC: MO-067-AF
footprint PG132 (132-Pin Ceramic PGA (PG132))
pins: A1 ~{PWRDN} (in), A2 NC, A3 NC, A4 I/O (io), A5 I/O (io), A6 I/O (io), A7 I/O (io), A8 I/O (io), A9 I/O (io), A10 I/O (io), A11 NC, A12 NC, A13 NC, A14 M0-RT (in), B1 A10-I/O (io), B2 I/O (io), B3 I/O (io), B4 I/O (io), B5 I/O (io), B6 I/O (io), B7 I/O (io), B8 I/O (io), B9 I/O (io), B10 I/O (io), B11 I/O (io), B12 I/O (io), B13 M1~{-RDATA} (out), B14 HDC-I/O (io), C1 I/O (io), C2 A9-I/O (io), C3 TCLKIN-I/O (io), C4 GND (power), C5 I/O (io), C6 I/O (io), C7 GND (power), C8 VCC (power), C9 I/O (io), C10 I/O (io), C11 GND (power), C12 I/O (io), C13 M2-I/O (io), C14 I/O (io), D1 A11-I/O (io), D2 A8-I/O (io), D3 VCC (power), D12 VCC (power), D13 I/O (io), D14 ~{LDC}-I/O (io), E1 A7-I/O (io), E2 I/O (io), E3 I/O (io), E12 I/O (io), E13 NC, E14 I/O (io), F1 NC, F2 A12-I/O (io), F3 I/O (io), F12 I/O (io), F13 I/O (io), F14 I/O (io), G1 A6-I/O (io), G2 A13-I/O (io), G3 VCC (power), G12 VCC (power), G13 I/O (io), G14 ~{INIT}-I/O (io), H1 A14-I/O (io), H2 A5-IO (io), H3 GND (power), H12 GND (power), H13 I/O (io), H14 I/O (io), J1 NC, J2 A4-I/O (io), J3 I/O (io), J12 I/O (io), J13 I/O (io), J14 I/O (io), K1 A15-I/O (io), K2 I/O (io), K3 I/O (io), K12 I/O (io), K13 I/O (io), K14 I/O (io), L1 A3-I/O (io), L2 A2-I/O (io), L3 GND (power), L12 GND (power), L13 I/O (io), L14 NC, M1 I/O (io), M2 A0-~{WS}-I/O (io), M3 DOUT-I/O (io), M4 VCC (power), M5 D1-I/O (io), M6 D2-I/O (io), M7 GND (power), M8 VCC (power), M9 D5-I/O (io), M10 I/O (io), M11 VCC (power), M12 D7-I/O (io), M13 XTAL2(IN)-I/O (io), M14 I/O (io), N1 A1-CS2-I/O (io), N2 D0-DIN-I/O (io), N3 I/O (io), N4 RDY/~{BUSY}-~{BCLK}-I/O (io), N5 I/O (io), N6 NC, N7 D3-I/O (io), N8 D4-I/O (io), N9 ~{CS}0-I/O (io), N10 I/O (io), N11 D6-I/O (io), N12 I/O (io), N13 DONE~{-PG} (out), N14 I/O (io), P1 CCLK (io), P2 I/O (io), P3 I/O (io), P4 I/O (io), P5 NC, P6 ~{CS}1-I/O (io), P7 I/O (io), P8 NC, P9 NC, P10 I/O (io), P11 NC, P12 I/O (io), P13 BCLKIN-XTAL1-I/O (io), P14 ~{RESET} (in)

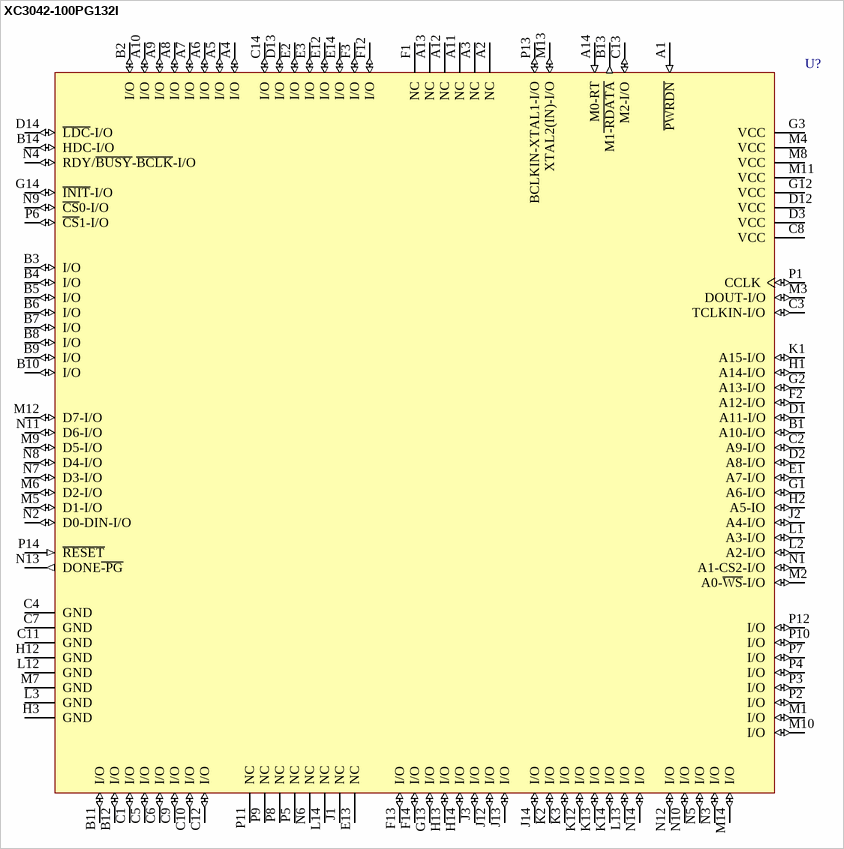
[diagram p38: symbol XC3042-100PG132I]

## XC3042-100PG132I
designator U?
Logic Cell Array with 144 CLBs, with 96 I/O Pins, 132-Pin PGA, Industrial Grade; PackageDocument: ver1.1, Apr-2001; Published: 8-Jun-2000; LatestRevisionDate: 17-Jul-2002; LatestRevisionNote: Re-released for DXP Platform.; DatasheetDocument: 1994; PackageReference: PG132; Publisher: Altium Limited; Code_JEDEC: MO-067-AF
footprint PG132 (132-Pin Ceramic PGA (PG132))
pins: A1 ~{PWRDN} (in), A2 NC, A3 NC, A4 I/O (io), A5 I/O (io), A6 I/O (io), A7 I/O (io), A8 I/O (io), A9 I/O (io), A10 I/O (io), A11 NC, A12 NC, A13 NC, A14 M0-RT (in), B1 A10-I/O (io), B2 I/O (io), B3 I/O (io), B4 I/O (io), B5 I/O (io), B6 I/O (io), B7 I/O (io), B8 I/O (io), B9 I/O (io), B10 I/O (io), B11 I/O (io), B12 I/O (io), B13 M1~{-RDATA} (out), B14 HDC-I/O (io), C1 I/O (io), C2 A9-I/O (io), C3 TCLKIN-I/O (io), C4 GND (power), C5 I/O (io), C6 I/O (io), C7 GND (power), C8 VCC (power), C9 I/O (io), C10 I/O (io), C11 GND (power), C12 I/O (io), C13 M2-I/O (io), C14 I/O (io), D1 A11-I/O (io), D2 A8-I/O (io), D3 VCC (power), D12 VCC (power), D13 I/O (io), D14 ~{LDC}-I/O (io), E1 A7-I/O (io), E2 I/O (io), E3 I/O (io), E12 I/O (io), E13 NC, E14 I/O (io), F1 NC, F2 A12-I/O (io), F3 I/O (io), F12 I/O (io), F13 I/O (io), F14 I/O (io), G1 A6-I/O (io), G2 A13-I/O (io), G3 VCC (power), G12 VCC (power), G13 I/O (io), G14 ~{INIT}-I/O (io), H1 A14-I/O (io), H2 A5-IO (io), H3 GND (power), H12 GND (power), H13 I/O (io), H14 I/O (io), J1 NC, J2 A4-I/O (io), J3 I/O (io), J12 I/O (io), J13 I/O (io), J14 I/O (io), K1 A15-I/O (io), K2 I/O (io), K3 I/O (io), K12 I/O (io), K13 I/O (io), K14 I/O (io), L1 A3-I/O (io), L2 A2-I/O (io), L3 GND (power), L12 GND (power), L13 I/O (io), L14 NC, M1 I/O (io), M2 A0-~{WS}-I/O (io), M3 DOUT-I/O (io), M4 VCC (power), M5 D1-I/O (io), M6 D2-I/O (io), M7 GND (power), M8 VCC (power), M9 D5-I/O (io), M10 I/O (io), M11 VCC (power), M12 D7-I/O (io), M13 XTAL2(IN)-I/O (io), M14 I/O (io), N1 A1-CS2-I/O (io), N2 D0-DIN-I/O (io), N3 I/O (io), N4 RDY/~{BUSY}-~{BCLK}-I/O (io), N5 I/O (io), N6 NC, N7 D3-I/O (io), N8 D4-I/O (io), N9 ~{CS}0-I/O (io), N10 I/O (io), N11 D6-I/O (io), N12 I/O (io), N13 DONE~{-PG} (out), N14 I/O (io), P1 CCLK (io), P2 I/O (io), P3 I/O (io), P4 I/O (io), P5 NC, P6 ~{CS}1-I/O (io), P7 I/O (io), P8 NC, P9 NC, P10 I/O (io), P11 NC, P12 I/O (io), P13 BCLKIN-XTAL1-I/O (io), P14 ~{RESET} (in)

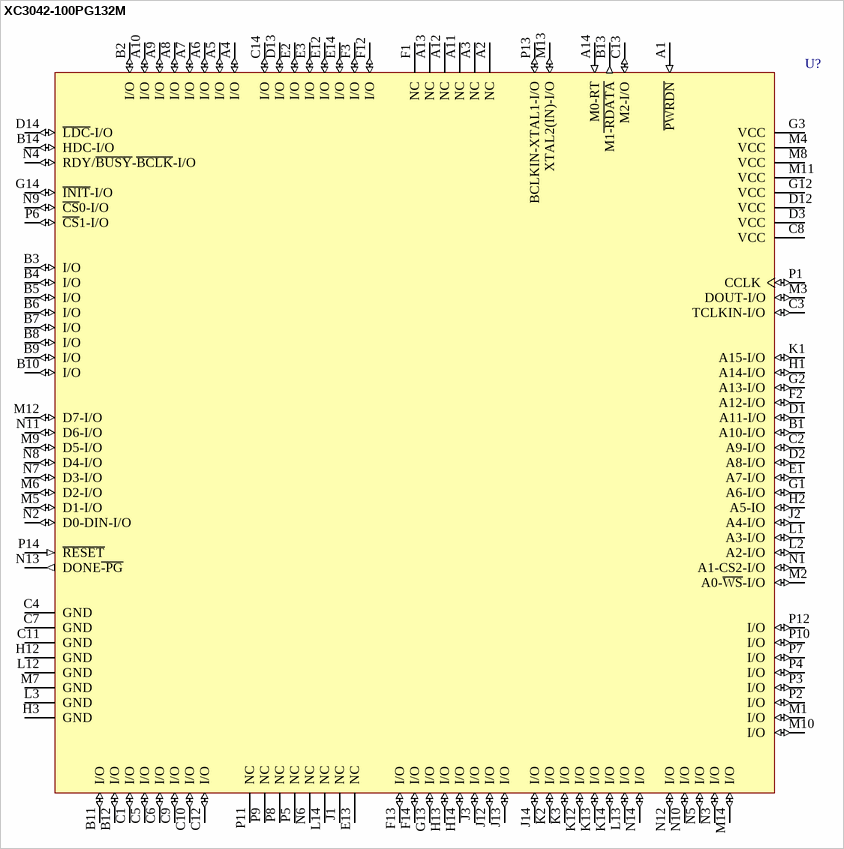
[diagram p39: symbol XC3042-100PG132M]

## XC3042-100PG132M
designator U?
Logic Cell Array with 144 CLBs, with 96 I/O Pins, 132-Pin PGA, Military Grade; PackageDocument: ver1.1, Apr-2001; Published: 8-Jun-2000; LatestRevisionDate: 17-Jul-2002; LatestRevisionNote: Re-released for DXP Platform.; DatasheetDocument: 1994; PackageReference: PG132; Publisher: Altium Limited; Code_JEDEC: MO-067-AF
footprint PG132 (132-Pin Ceramic PGA (PG132))
pins: A1 ~{PWRDN} (in), A2 NC, A3 NC, A4 I/O (io), A5 I/O (io), A6 I/O (io), A7 I/O (io), A8 I/O (io), A9 I/O (io), A10 I/O (io), A11 NC, A12 NC, A13 NC, A14 M0-RT (in), B1 A10-I/O (io), B2 I/O (io), B3 I/O (io), B4 I/O (io), B5 I/O (io), B6 I/O (io), B7 I/O (io), B8 I/O (io), B9 I/O (io), B10 I/O (io), B11 I/O (io), B12 I/O (io), B13 M1~{-RDATA} (out), B14 HDC-I/O (io), C1 I/O (io), C2 A9-I/O (io), C3 TCLKIN-I/O (io), C4 GND (power), C5 I/O (io), C6 I/O (io), C7 GND (power), C8 VCC (power), C9 I/O (io), C10 I/O (io), C11 GND (power), C12 I/O (io), C13 M2-I/O (io), C14 I/O (io), D1 A11-I/O (io), D2 A8-I/O (io), D3 VCC (power), D12 VCC (power), D13 I/O (io), D14 ~{LDC}-I/O (io), E1 A7-I/O (io), E2 I/O (io), E3 I/O (io), E12 I/O (io), E13 NC, E14 I/O (io), F1 NC, F2 A12-I/O (io), F3 I/O (io), F12 I/O (io), F13 I/O (io), F14 I/O (io), G1 A6-I/O (io), G2 A13-I/O (io), G3 VCC (power), G12 VCC (power), G13 I/O (io), G14 ~{INIT}-I/O (io), H1 A14-I/O (io), H2 A5-IO (io), H3 GND (power), H12 GND (power), H13 I/O (io), H14 I/O (io), J1 NC, J2 A4-I/O (io), J3 I/O (io), J12 I/O (io), J13 I/O (io), J14 I/O (io), K1 A15-I/O (io), K2 I/O (io), K3 I/O (io), K12 I/O (io), K13 I/O (io), K14 I/O (io), L1 A3-I/O (io), L2 A2-I/O (io), L3 GND (power), L12 GND (power), L13 I/O (io), L14 NC, M1 I/O (io), M2 A0-~{WS}-I/O (io), M3 DOUT-I/O (io), M4 VCC (power), M5 D1-I/O (io), M6 D2-I/O (io), M7 GND (power), M8 VCC (power), M9 D5-I/O (io), M10 I/O (io), M11 VCC (power), M12 D7-I/O (io), M13 XTAL2(IN)-I/O (io), M14 I/O (io), N1 A1-CS2-I/O (io), N2 D0-DIN-I/O (io), N3 I/O (io), N4 RDY/~{BUSY}-~{BCLK}-I/O (io), N5 I/O (io), N6 NC, N7 D3-I/O (io), N8 D4-I/O (io), N9 ~{CS}0-I/O (io), N10 I/O (io), N11 D6-I/O (io), N12 I/O (io), N13 DONE~{-PG} (out), N14 I/O (io), P1 CCLK (io), P2 I/O (io), P3 I/O (io), P4 I/O (io), P5 NC, P6 ~{CS}1-I/O (io), P7 I/O (io), P8 NC, P9 NC, P10 I/O (io), P11 NC, P12 I/O (io), P13 BCLKIN-XTAL1-I/O (io), P14 ~{RESET} (in)

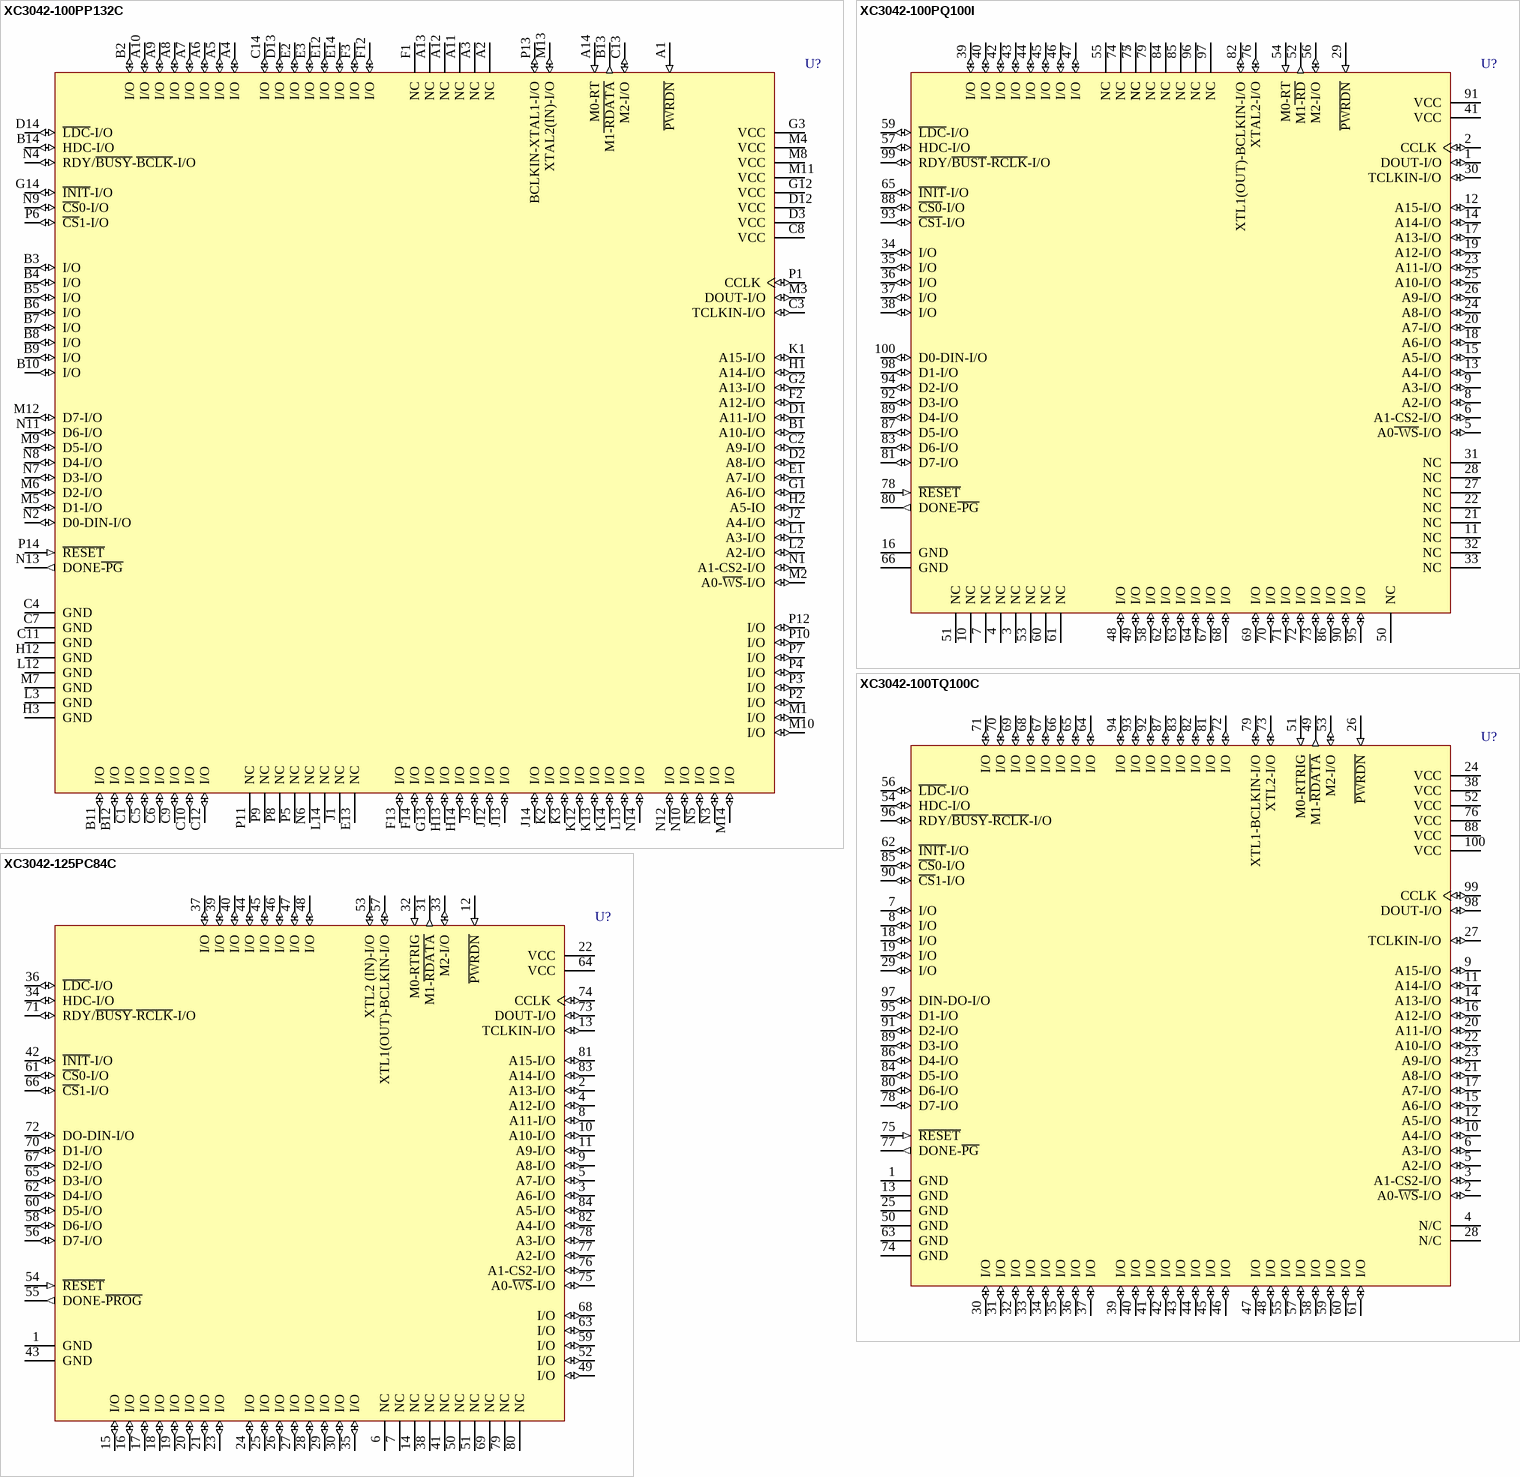
[diagram p40: symbols XC3042-100PP132C to XC3042-125PC84C]

## XC3042-100PP132C
designator U?
Logic Cell Array with 144 CLBs, with 96 I/O Pins, 132-Pin PGA, Commercial Grade; PackageDocument: ver1.1, Apr-2001; Published: 8-Jun-2000; LatestRevisionDate: 17-Jul-2002; LatestRevisionNote: Re-released for DXP Platform.; DatasheetDocument: 1994; PackageReference: PP132; Publisher: Altium Limited; Code_JEDEC: MO-083-AF
footprint PP132 (132-Pin Plastic PGA (PP132))
pins: A1 ~{PWRDN} (in), A2 NC, A3 NC, A4 I/O (io), A5 I/O (io), A6 I/O (io), A7 I/O (io), A8 I/O (io), A9 I/O (io), A10 I/O (io), A11 NC, A12 NC, A13 NC, A14 M0-RT (in), B1 A10-I/O (io), B2 I/O (io), B3 I/O (io), B4 I/O (io), B5 I/O (io), B6 I/O (io), B7 I/O (io), B8 I/O (io), B9 I/O (io), B10 I/O (io), B11 I/O (io), B12 I/O (io), B13 M1~{-RDATA} (out), B14 HDC-I/O (io), C1 I/O (io), C2 A9-I/O (io), C3 TCLKIN-I/O (io), C4 GND (power), C5 I/O (io), C6 I/O (io), C7 GND (power), C8 VCC (power), C9 I/O (io), C10 I/O (io), C11 GND (power), C12 I/O (io), C13 M2-I/O (io), C14 I/O (io), D1 A11-I/O (io), D2 A8-I/O (io), D3 VCC (power), D12 VCC (power), D13 I/O (io), D14 ~{LDC}-I/O (io), E1 A7-I/O (io), E2 I/O (io), E3 I/O (io), E12 I/O (io), E13 NC, E14 I/O (io), F1 NC, F2 A12-I/O (io), F3 I/O (io), F12 I/O (io), F13 I/O (io), F14 I/O (io), G1 A6-I/O (io), G2 A13-I/O (io), G3 VCC (power), G12 VCC (power), G13 I/O (io), G14 ~{INIT}-I/O (io), H1 A14-I/O (io), H2 A5-IO (io), H3 GND (power), H12 GND (power), H13 I/O (io), H14 I/O (io), J1 NC, J2 A4-I/O (io), J3 I/O (io), J12 I/O (io), J13 I/O (io), J14 I/O (io), K1 A15-I/O (io), K2 I/O (io), K3 I/O (io), K12 I/O (io), K13 I/O (io), K14 I/O (io), L1 A3-I/O (io), L2 A2-I/O (io), L3 GND (power), L12 GND (power), L13 I/O (io), L14 NC, M1 I/O (io), M2 A0-~{WS}-I/O (io), M3 DOUT-I/O (io), M4 VCC (power), M5 D1-I/O (io), M6 D2-I/O (io), M7 GND (power), M8 VCC (power), M9 D5-I/O (io), M10 I/O (io), M11 VCC (power), M12 D7-I/O (io), M13 XTAL2(IN)-I/O (io), M14 I/O (io), N1 A1-CS2-I/O (io), N2 D0-DIN-I/O (io), N3 I/O (io), N4 RDY/~{BUSY}-~{BCLK}-I/O (io), N5 I/O (io), N6 NC, N7 D3-I/O (io), N8 D4-I/O (io), N9 ~{CS}0-I/O (io), N10 I/O (io), N11 D6-I/O (io), N12 I/O (io), N13 DONE~{-PG} (out), N14 I/O (io), P1 CCLK (io), P2 I/O (io), P3 I/O (io), P4 I/O (io), P5 NC, P6 ~{CS}1-I/O (io), P7 I/O (io), P8 NC, P9 NC, P10 I/O (io), P11 NC, P12 I/O (io), P13 BCLKIN-XTAL1-I/O (io), P14 ~{RESET} (in)

## XC3042-100PQ100I
designator U?
Logic Cell Array with 144 CLBs, with 64 I/O Pins, 100-Pin PQFP, Industrial Grade; PackageDocument: ver1.2, Oct-2002; Published: 8-Jun-2000; LatestRevisionDate: 17-Sep-2003; LatestRevisionNote: PCB Footprint dimensions updated; DatasheetDocument: 1994; PackageReference: PQ100; Publisher: Altium Limited; Code_IPC: QFP-14X20-100
footprint PQ100 (100-Pin Plastic Quad Flat Pack (PQ100))
pins: 1 DOUT-I/O (io), 2 CCLK (io), 3 NC, 4 NC, 5 A0~{-WS}-I/O (io), 6 A1-CS2-I/O (io), 7 NC, 8 A2-I/O (io), 9 A3-I/O (io), 10 NC, 11 NC, 12 A15-I/O (io), 13 A4-I/O (io), 14 A14-I/O (io), 15 A5-I/O (io), 16 GND (power), 17 A13-I/O (io), 18 A6-I/O (io), 19 A12-I/O (io), 20 A7-I/O (io), 21 NC, 22 NC, 23 A11-I/O (io), 24 A8-I/O (io), 25 A10-I/O (io), 26 A9-I/O (io), 27 NC, 28 NC, 29 ~{PWRDN} (in), 30 TCLKIN-I/O (io), 31 NC, 32 NC, 33 NC, 34 I/O (io), 35 I/O (io), 36 I/O (io), 37 I/O (io), 38 I/O (io), 39 I/O (io), 40 I/O (io), 41 VCC (power), 42 I/O (io), 43 I/O (io), 44 I/O (io), 45 I/O (io), 46 I/O (io), 47 I/O (io), 48 I/O (io), 49 I/O (io), 50 NC, 51 NC, 52 M1~{-RD} (out), 53 NC, 54 M0-RT (in), 55 NC, 56 M2-I/O (io), 57 HDC-I/O (io), 58 I/O (io), 59 ~{LDC}-I/O (io), 60 NC, 61 NC, 62 I/O (io), 63 I/O (io), 64 I/O (io), 65 ~{INIT}-I/O (io), 66 GND (power), 67 I/O (io), 68 I/O (io), 69 I/O (io), 70 I/O (io), 71 I/O (io), 72 I/O (io), 73 I/O (io), 74 NC, 75 NC, 76 XTAL2-I/O (io), 77 NC, 78 ~{RESET} (in), 79 NC, 80 DONE~{-PG} (out), 81 D7-I/O (io), 82 XTL1(OUT)-BCLKIN-I/O (io), 83 D6-I/O (io), 84 NC, 85 NC, 86 I/O (io), 87 D5-I/O (io), 88 ~{CS0}-I/O (io), 89 D4-I/O (io), 90 I/O (io), 91 VCC (power), 92 D3-I/O (io), 93 ~{CS1}-I/O (io), 94 D2-I/O (io), 95 I/O (io), 96 NC, 97 NC, 98 D1-I/O (io), 99 RDY/~{BUST}-~{RCLK}-I/O (io), 100 D0-DIN-I/O (io)

## XC3042-100TQ100C
designator U?
Logic Cell Array with 144 CLBs, with 80 I/O Pins, 100-Pin TQFP, Commercial Grade; PackageDocument: ver1.1, Oct-2002; Published: 8-Jun-2000; LatestRevisionDate: 17-Jul-2002; LatestRevisionNote: Re-released for DXP Platform.; DatasheetDocument: 1994; PackageReference: TQ100; Publisher: Altium Limited; Code_IPC: SQFP14X14-100
footprint TQ100 (100-Pin Thin Quad Flat Pack (TQ100))
pins: 1 GND (power), 2 A0-~{WS}-I/O (io), 3 A1-CS2-I/O (io), 4 N/C, 5 A2-I/O (io), 6 A3-I/O (io), 7 I/O (io), 8 I/O (io), 9 A15-I/O (io), 10 A4-I/O (io), 11 A14-I/O (io), 12 A5-I/O (io), 13 GND (power), 14 A13-I/O (io), 15 A6-I/O (io), 16 A12-I/O (io), 17 A7-I/O (io), 18 I/O (io), 19 I/O (io), 20 A11-I/O (io), 21 A8-I/O (io), 22 A10-I/O (io), 23 A9-I/O (io), 24 VCC (power), 25 GND (power), 26 ~{PWRDN} (in), 27 TCLKIN-I/O (io), 28 N/C, 29 I/O (io), 30 I/O (io), 31 I/O (io), 32 I/O (io), 33 I/O (io), 34 I/O (io), 35 I/O (io), 36 I/O (io), 37 I/O (io), 38 VCC (power), 39 I/O (io), 40 I/O (io), 41 I/O (io), 42 I/O (io), 43 I/O (io), 44 I/O (io), 45 I/O (io), 46 I/O (io), 47 I/O (io), 48 I/O (io), 49 M1-~{RDATA} (out), 50 GND (power), 51 M0-RTRIG (in), 52 VCC (power), 53 M2-I/O (io), 54 HDC-I/O (io), 55 I/O (io), 56 ~{LDC}-I/O (io), 57 I/O (io), 58 I/O (io), 59 I/O (io), 60 I/O (io), 61 I/O (io), 62 ~{INIT}-I/O (io), 63 GND (power), 64 I/O (io), 65 I/O (io), 66 I/O (io), 67 I/O (io), 68 I/O (io), 69 I/O (io), 70 I/O (io), 71 I/O (io), 72 I/O (io), 73 XTL2-I/O (io), 74 GND (power), 75 ~{RESET} (in), 76 VCC (power), 77 DONE-~{PG} (out), 78 D7-I/O (io), 79 XTL1-BCLKIN-I/O (io), 80 D6-I/O (io), 81 I/O (io), 82 I/O (io), 83 I/O (io), 84 D5-I/O (io), 85 ~{CS}0-I/O (io), 86 D4-I/O (io), 87 I/O (io), 88 VCC (power), 89 D3-I/O (io), 90 ~{CS}1-I/O (io), 91 D2-I/O (io), 92 I/O (io), 93 I/O (io), 94 I/O (io), 95 D1-I/O (io), 96 RDY/~{BUSY}-~{RCLK}-I/O (io), 97 DIN-DO-I/O (io), 98 DOUT-I/O (io), 99 CCLK (io), 100 VCC (power)